# Altium schematic symbol library Sch_Lib.SchLib: 794 symbols (part 1 of 9)
Pins are listed as number, name and electrical type; pins without a type are passive.

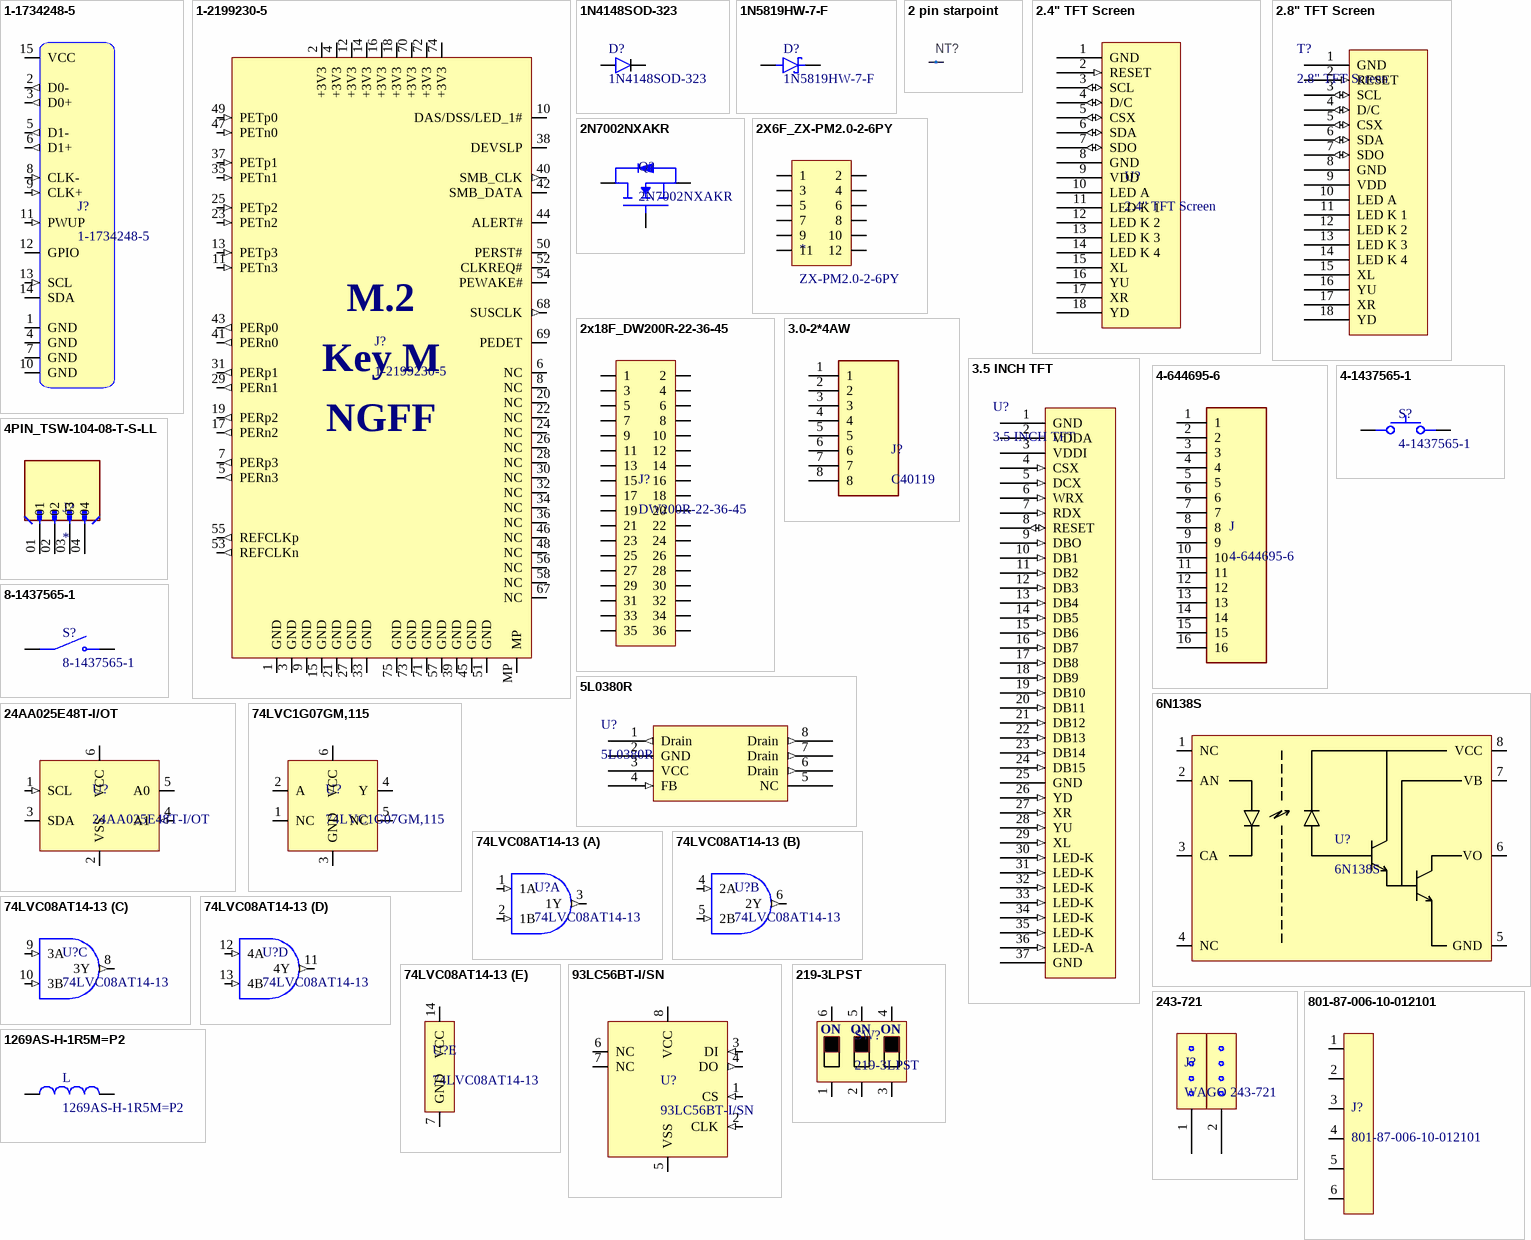
[diagram p0: symbols 1-1734248-5 to 1269AS-H-1R5M=P2]

## 1-1734248-5
designator J?
FFC & FPC Connectors 15P 1.0 FPC, Zip V/T SMT; Manufacturer: TE Connectivity; Manufacturer Part Number: 1-1734248-5; Distributor Link: https://www.mouser.de/ProductDetail/TE-Connectivity/1-1734248-5?qs=sGAEpiMZZMvlX3nhDDO4AGJoiHpVI%252BrLj36UQiWnLiQ%3D; LCSC: C2922285
footprint 1-1734248-5
pins: 1 GND (power), 2 D0- (out), 3 D0+ (out), 4 GND (power), 5 D1- (out), 6 D1+ (out), 7 GND (power), 8 CLK- (in), 9 CLK+ (in), 10 GND (power), 11 PWUP (in), 12 GPIO (io), 13 SCL (in), 14 SDA (io), 15 VCC (power)

## 1-2199230-5
designator J?  (no BOM)
M.2 NGFF Key M Card Edge Connector 0.5mm Pitch 67 Position 4.2mm Height; Manufacturer: TE Connectivity; Manufacturer Part Number: 1-2199230-5; Distributor Link: https://eu.mouser.com/ProductDetail/TE-Connectivity/1-2199230-5?qs=N0TJGnUfxCD5L9UvFjPEwQ%3D%3D; LCSC: C590854
footprint 1-2199230-5
pins: 1 GND (power), 2 +3V3 (power), 3 GND (power), 4 +3V3 (power), 5 PERn3 (out), 6 NC, 7 PERp3 (out), 8 NC, 9 GND (power), 10 DAS/DSS/LED_1#, 11 PETn3 (in), 12 +3V3 (power), 13 PETp3 (in), 14 +3V3 (power), 15 GND (power), 16 +3V3 (power), 17 PERn2 (out), 18 +3V3 (power), 19 PERp2 (out), 20 NC, 21 GND (power), 22 NC, 23 PETn2 (in), 24 NC, 25 PETp2 (in), 26 NC, 27 GND (power), 28 NC, 29 PERn1 (out), 30 NC, 31 PERp1 (out), 32 NC, 33 GND (power), 34 NC, 35 PETn1 (in), 36 NC, 37 PETp1 (in), 38 DEVSLP, 39 GND (power), 40 SMB_CLK (out), 41 PERn0 (out), 42 SMB_DATA (io), 43 PERp0 (out), 44 ALERT#, 45 GND (power), 46 NC, 47 PETn0 (in), 48 NC, 49 PETp0 (in), 50 PERST#, 51 GND (power), 52 CLKREQ#, 53 REFCLKn (out), 54 PEWAKE#, 55 REFCLKp (out), 56 NC, 57 GND (power), 58 NC, 67 NC, 68 SUSCLK (out), 69 PEDET, 70 +3V3 (power), 71 GND (power), 72 +3V3 (power), 73 GND (power), 74 +3V3 (power), 75 GND (power), MP (power)
text: M.2; Key M; NGFF

## 1N4148SOD-323
designator D?
75V Independent Type 1V@10mA 4ns 150mA SOD-323 Switching Diodes ROHS; Manufacturer: Shenzhen Jinkaisheng Elec; MPN: 1N4148SOD-323; LCSC NO: C2972761; ComponentLink1Description: LCSC Link; ComponentLink1URL: https://lcsc.com/product-detail/Switching-Diodes_Shenzhen-Jinkaisheng-Elec-1N4148SOD-323_C2972761.html?s_z=n_1N4148SOD-323
footprint SOD-323
pins: 1, 2

## 1N5819HW-7-F
designator D?
Diode Schottky 40 V 1A Surface Mount SOD-123; MF: Diodes Inc.; Value: *; SnapEDA_Link: https://www.snapeda.com/parts/1N5819HW-7-F/Diodes+Inc./view-part/?ref=snap; Purchase-URL: https://pricing.snapeda.com/search/part/1N5819HW-7-F/?ref=eda; Availability: In Stock; Price: None; Package: SOD-123 Fairchild Semiconductor; Check_prices: https://www.snapeda.com/parts/1N5819HW-7-F/Diodes+Inc./view-part/?ref=eda; MP: 1N5819HW-7-F
footprint SOD3715X145N
pins: A, C K

## 2 pin starpoint
designator NT?, comment Net tie  (value not drawn)  (net tie, no BOM)
Starpoint; Part Number: 2 pin starpoint; Manufacturer: N.A.; Part number NEMS: 100500603; Pad Count: 2; Component Status: Active; System: Connector; Manufacturer Part Number: N.A.; ComponentLink1URL: N.A.; ComponentLink1Description: Datasheet; ComponentLink2URL: N.A.; ComponentLink2Description: Supplier link; HelpURL: N.A.; Footprint Doc: N.A.; LatestRevisionDate: 2017-08-31; Published: 2017-08-31; Value: Net tie; Note: Net tie; Supplier 1: N.A.; Supplier Part Number 1: N.A.; Supplier 2: N.A.; Supplier Part Number 2: N.A.; Artikkelnr Noca: N.A.; Part number IPS: N.A.; Component Class: Connectors; PartId: 100500603; Author: rsk; Part number Norautron: N.A.
footprint 2 PIN STARPOINT
pins: 1, 2

## 2.4" TFT Screen
designator U?
footprint 2.4 inch Screen
pins: 1 GND (power), 2 RESET (in), 3 SCL (io), 4 D/C (io), 5 CSX (io), 6 SDA (io), 7 SDO (io), 8 GND (power), 9 VDD (power), 10 LED A (power), 11 LED K 1 (power), 12 LED K 2 (power), 13 LED K 3 (power), 14 LED K 4 (power), 15 XL (power), 16 YU (power), 17 XR (power), 18 YD (power)

## 2.8" TFT Screen
designator T?
SPI tft screen. For 2.4 inch
footprint 2.8 inch
pins: 1 GND (power), 2 RESET (in), 3 SCL (io), 4 D/C (io), 5 CSX (io), 6 SDA (io), 7 SDO (io), 8 GND (power), 9 VDD (power), 10 LED A (power), 11 LED K 1 (power), 12 LED K 2 (power), 13 LED K 3 (power), 14 LED K 4 (power), 15 XL (power), 16 YU (power), 17 XR (power), 18 YD (power)

## 2N7002NXAKR
designator Q?
MOSFET N-Channel Vds=60V Id=300mA with ESD Protection; Manufacturer: Nexperia; Manufacturer Part Number: 2N7002NXAKR
footprint SSM3J338R,LF-SOT23-F
pins: D, G, S

## 2X6F_ZX-PM2.0-2-6PY
designator *, comment ZX-PM2.0-2-6PY
2mm 2mm Double Row Gold 12P 1kV -40℃~+105℃ Straight 2x6P 6.35mm Top Square Hole Plugin,P=2mm Female Headers ROHS; Manufacturer: Megastar; MPN: ZX-PM2.0-2-6PY; LCSC NO: C7499370; ComponentLink1Description: LCSC Link; ComponentLink1URL: https://lcsc.com/product-detail/Female-Headers_Megastar-ZX-PM2-0-2-6PY_C7499370.html?s_z=n_%25202x6P%2520Female%2520Headers
footprint HDR-TH_12P-P2.00-V-M-R2-C6-S2.00-3 (2mm 2mm Double Row Gold 12P 1kV -40?~+105? Straight 2x6P 6.35mm Top Square Hole Plugin,P=2mm Female Headers ROHS)
pins: 1, 2, 3, 4, 5, 6, 7, 8, 9, 10, 11, 12

## 2x18F_DW200R-22-36-45
designator J?, comment DW200R-22-36-45
2mm Double Row Straight 2x18P Plugin,P=2mm Female Headers ROHS; Manufacturer: DEALON; MPN: DW200R-22-36-45; LCSC NO: C7506677; ComponentLink1Description: LCSC Link; ComponentLink1URL: https://lcsc.com/product-detail/Female-Headers_DEALON-DW200R-22-36-45_C7506677.html?s_z=n_%25202x18P%2520Female%2520Headers
footprint HDR-TH_36P-P2.00-V-F-R2-C18-S2.00 (2mm Double Row Straight 2x18P Plugin,P=2mm Female Headers ROHS)
pins: 1, 2, 3, 4, 5, 6, 7, 8, 9, 10, 11, 12, 13, 14, 15, 16, 17, 18, 19, 20, 21, 22, 23, 24, 25, 26, 27, 28, 29, 30, 31, 32, 33, 34, 35, 36

## 3.0-2*4AW
designator J?, comment C40119
2x4P 8P Micro-Fit(MX 3.0) 3mm 4 2 3mm Bend-in Push-Pull,P=3mm Wire To Board Connector ROHS
footprint 3.0-2*4AW (2x4P 8P Micro-Fit(MX 3.0) 3mm 4 2 3mm Bend-in Push-Pull,P=3mm Wire To Board Connector ROHS)
pins: 1, 2, 3, 4, 5, 6, 7, 8

## 3.5 INCH TFT
designator U?
footprint 3.5inch TFT
pins: 1 GND (power), 2 VDDA (power), 3 VDDI (power), 4 CSX (in), 5 DCX (in), 6 WRX (in), 7 RDX (in), 8 RESET (io), 9 DBO (in), 10 DB1 (in), 11 DB2 (in), 12 DB3 (in), 13 DB4 (in), 14 DB5 (in), 15 DB6 (in), 16 DB7 (in), 17 DB8 (in), 18 DB9 (in), 19 DB10 (in), 20 DB11 (in), 21 DB12 (in), 22 DB13 (in), 23 DB14 (in), 24 DB15 (in), 25 GND (power), 26 YD (in), 27 XR (in), 28 YU (in), 29 XL (in), 30 LED-K (in), 31 LED-K (in), 32 LED-K (in), 33 LED-K (in), 34 LED-K (in), 35 LED-K (in), 36 LED-A (in), 37 GND (power)

## 4-644695-6
designator J
16Pin 2.54mm MTA100 STR HDR RETENTIVE; MF: TE Connectivity; Centerline_Pitch: 2.54 mm[.1 in]; Product_Type: Connector; Number_of_Positions: 16; Package: None; Availability: Unavailable; TE_purchase_URL: https://www.te.com/usa-en/product-4-644695-6.html?te_bu=Cor&te_type=disp&te_campaign=seda_glo_cor-seda-global-disp-prtnr-fy19-seda-model-bom-cta_sma-317_1&elqCampaignId=32493; Value: *; MP: 4-644695-6; EU_RoHS_Compliance: Compliant; SnapEDA_Link: https://www.snapeda.com/parts/4-644695-6/TE%20Connectivity/view-part/1430141/?ref=snap; Price: None
footprint TE_4-644695-6
pins: 1, 2, 3, 4, 5, 6, 7, 8, 9, 10, 11, 12, 13, 14, 15, 16

## 4-1437565-1
designator S?
FSM4JSMA=SMT,TACTILE,PB SWITCH | TE Connectivity 4-1437565-1; Contact_Current_Rating: 50 mA; Configuration_Pole-Throw: Single Pole - Single Throw; SnapEDA_Link: https://www.snapeda.com/parts/4-1437565-1/TE+Connectivity+ALCOSWITCH+Switches/view-part/?ref=snap; Package: None; Value: *; MF: TE Connectivity; MP: 4-1437565-1; EU_RoHS_Compliance: Compliant; Check_prices: https://www.snapeda.com/parts/4-1437565-1/TE+Connectivity+ALCOSWITCH+Switches/view-part/?ref=eda
footprint SW_4-1437565-1
pins: 1, 4

## 4PIN_TSW-104-08-T-S-LL
designator J?
MF: Samtec; MP: TSW-104-08-T-S-LL; Availability: Unavailable; Value: *; Package: None; Price: None
footprint SAMTEC_TSW-104-08-T-S-LL
pins: 01, 02, 03, 04

## 5L0380R
designator U?
Switching IC for off-line SMPS
footprint 5L0380R
pins: 1 Drain (out), 2 GND (power), 3 VCC (power), 4 FB (in), 5 NC (oc), 6 Drain (out), 7 Drain (out), 8 Drain (out)

## 6N138S
designator U?
Single-Channel, High-Speed Optocoupler; Manufacturer: Lite-On; Manufacturer Part Number: 6N138S; Distributor Link: https://www.mouser.de/ProductDetail/Lite-On/6N138S?qs=PByDJ0nQNwpiJNZ8Mk8Kdw%3D%3D
footprint SMD-8
pins: 1 NC, 2 AN, 3 CA, 4 NC, 5 GND (power), 6 VO (oc), 7 VB (power), 8 VCC (power)

## 8-1437565-1
designator S?
Package: None; MP: 8-1437565-1; Price: None; Availability: Unavailable; Value: *
footprint SW_8-1437565-1
pins: 1 COM, 2 COM, 3 NO, 4 NO

## 24AA025E48T-I/OT
designator U?
2-Kbit I2C Serial EEPROMs with EUI-48™ Node Identity; Manufacturer: Microchip; Manufacturer Part Number: 24AA025E48T-I/OT; Distributor Link: https://www.mouser.de/ProductDetail/Microchip-Technology/24AA025E48T-I-OT?qs=GCDK0xhvQh4RRiPFFnzHdA%3D%3D; LCSC: C129895
footprint SOT-23-6
pins: 1 SCL (in), 2 VSS (power), 3 SDA (io), 4 A1 (in), 5 A0 (power), 6 VCC (power)

## 74LVC1G07GM,115
designator U?
Open-Drain Buffer 3.3V/5V Non-Inverting XSON-6; Manufacturer: Nexperia; Manufacturer Part Number: 74LVC1G07GM,115
footprint XSON-6-SOT1202 (SON, 6-Leads, Body 0.98x1.00mm, Pitch 0.35mm, IPC Medium Density)
pins: 1 NC, 2 A, 3 GND, 4 Y, 5 NC, 6 VCC

## 74LVC08AT14-13
designator U?
QUADRUPLE 2-INPUT CMOS AND GATES; Manufacturer: Diodes Incorporated; Manufacturer Part Number: 74LVC08AT14-13; Distributor Link: https://eu.mouser.com/ProductDetail/Diodes-Incorporated/74LVC08AT14-13?qs=ZtY9WdtwX5535dJGuTpaIA%3D%3D
footprint TSSOP-14
part A pins: 1 1A (in), 2 1B (in), 3 1Y (out)
part B pins: 4 2A (in), 5 2B (in), 6 2Y (out)
part C pins: 8 3Y (out), 9 3A (in), 10 3B (in)
part D pins: 11 4Y (out), 12 4A (in), 13 4B (in)
part E pins: 7 GND (power), 14 VCC (power)

## 93LC56BT-I/SN
designator U?
2K Microwire Compatible Serial EEPROM; Manufacturer: Microchip; Manufacturer Part Number: 93LC56BT-I/SN; Distributor Link: https://www.mouser.de/ProductDetail/Microchip-Technology/93LC56BT-I-SN?qs=lQv0JY93vreW%252BBssv4v8RA%3D%3D; LCSC: C6164
footprint SOIC-8 (SOIC, 8-Leads, Body 4.91x3.90mm, Pitch 1.27mm, IPC Medium Density)
pins: 1 CS (in), 2 CLK (in), 3 DI (in), 4 DO (out), 5 VSS (power), 6 NC, 7 NC, 8 VCC (power)

## 219-3LPST
designator SW?
DIP Switches SPST 3x; Manufacturer: CTS; Manufacturer Part Number: 219-3LPST
footprint 219-3LPST
pins: 1, 2, 3, 4, 5, 6
text: ON

## 243-721
designator J?, comment WAGO 243-721
TERM BLOCK PLUG 1POS 5.75MM
footprint 243-721 (Connection terminal, 4 pole, 0.5-1.0 mm², clamping points: 4, gray)
pins: 1, 2

## 801-87-006-10-012101
designator J?
Pin Socket 6 Position 2.54mm Pitch; Manufacturer: preci-dip; Manufacturer Part Number: 801-87-006-10-012101
footprint 801-87-006-10-012101
pins: 1, 2, 3, 4, 5, 6

## 1269AS-H-1R5M=P2
designator L
Inductor with Inductance: 1.5uH Tol. +/-20%, Package: 1008 (2520); MF: Murata Electronics; Package: 2520 Murata; SnapEDA_Link: https://www.snapeda.com/parts/1269AS-H-1R5M=P2/Murata%20Electronics%20North%20America/view-part/577655/?ref=snap; MP: 1269AS-H-1R5M=P2; Value: *; Digi-Key_Part_Number: 490-10574-1-ND
footprint INDC2520X100N
pins: 1, 2

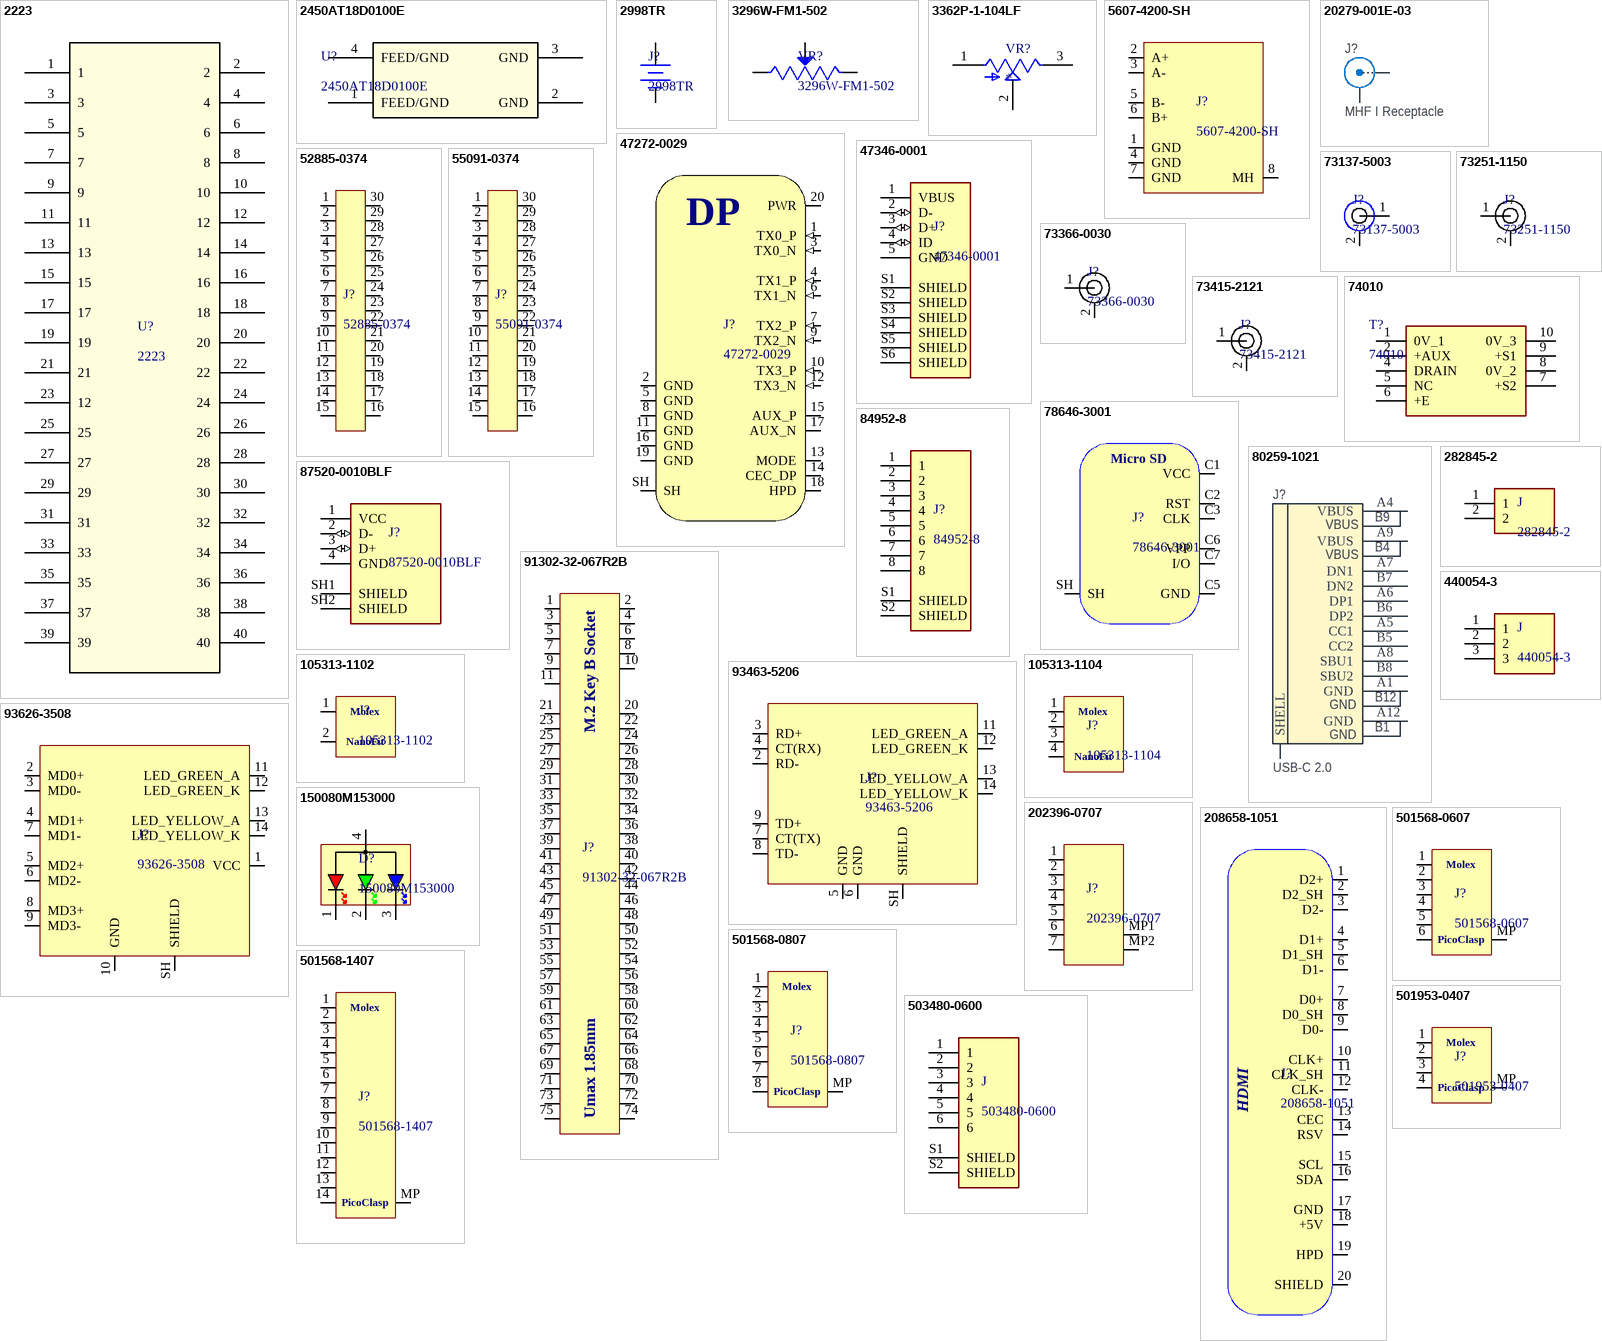
[diagram p1: symbols 2223 to 503480-0600]

## 2223
designator U?
Description; Manufacturer_Name: Adafruit Industries; Copyright: Copyright (C) 2025 Ultra Librarian. All rights reserved.; Manufacturer_Part_Number: 2223; RefDes: RefDes; Type: Type
footprint 2223_ADA
pins: 1, 2, 3, 4, 5, 6, 7, 8, 9, 10, 11, 12, 13, 14, 15, 16, 17, 18, 19, 20, 21, 22, 23 12, 24, 25, 26, 27, 28, 29, 30, 31, 32, 33, 34, 35, 36, 37, 38, 39, 40

## 2450AT18D0100E
designator U?
Description; Manufacturer_Name: Johanson Technology; Copyright: Copyright (C) 2025 Ultra Librarian. All rights reserved.; Manufacturer_Part_Number: 2450AT18D0100E; RefDes: RefDes; Type: Type
footprint 2450AT18D0100E_JOT
pins: 1 FEED/GND, 2 GND (power), 3 GND (power), 4 FEED/GND

## 2998TR
designator J?
Coin Cell Battery Holder 6.8mm; Manufacturer: Keystone Electronics; Manufacturer Part Number: 2998TR
footprint 2998TR (6.8mm Coin Cell Holder SMD)
pins: A, K

## 3296W-FM1-502
designator VR?
Trimmer Resistors - Through Hole; MF: Bourns; MP: 3296W-FM1-502; Availability: Warning; SnapEDA_Link: https://www.snapeda.com/parts/3296W-FM1-502/Bourns/view-part/3211169/?ref=snap; Package: None; Price: None; Value: *; Check_prices: https://www.snapeda.com/parts/3296W-FM1-502/Bourns/view-part/3211169/?ref=eda
footprint TRIM_3296W-FM1-502
pins: 1 CCW, 2 WIPER, 3 CW

## 3362P-1-104LF
designator VR?
Res Cermet Trimmer 100K Ohm 10% 0.5W(1/2W) 1(Elec)/1(Mech)Turns 2.77mm (6.6 X 6.99 X 4.7mm) Pin Thru-Hole Tube; MF: Bourns Electronics; MP: 3362P1104LF; SnapEDA_Link: https://www.snapeda.com/parts/3362P1104LF/Bourns/view-part/?ref=snap; Package: 3362P-1 Bourns Inc.; Value: *; Check_prices: https://www.snapeda.com/parts/3362P1104LF/Bourns/view-part/?ref=eda
footprint TRIM_3362P-1-104LF
pins: 1 CCW, 2 WIPER, 3 CW

## 5607-4200-SH
designator J?
SATA Connector 7-Position 1.27mm Pitch Male Right Angle SMD; Manufacturer: 3M; Manufacturer Part Number: 5607-4200-SH
footprint 5607-4200-SH
pins: 1 GND, 2 A+, 3 A-, 4 GND, 5 B-, 6 B+, 7 GND, 8 MH

## 20279-001E-03
designator J?, comment MHF I Receptacle
Ultraminiature Coaxial Connector, 50 Ohm, SMD; Part Number: 20279-001E-03; Manufacturer: Wellshow; Part number IPS: 00000004436; Part number NEMS: 100500636; Note: N.A.; Pad Count: 3; Component Status: Active; Manufacturer Part Number: 20279-001E-03; ComponentLink1URL: \\hizz\pro\app9717\Datasheet\connectors\Wellshow\20279C18.pdf; ComponentLink1Description: Datasheet; ComponentLink2URL: N.A.; ComponentLink2Description: Supplier link; HelpURL: N.A.; Footprint Doc: COAXIAL RF MHFI; LatestRevisionDate: 2020-04-28; Published: 2020-01-07; Value: MHF I Receptacle; Supplier 1: Cabcon; Supplier Part Number 1: 20279-001E-03; Supplier 2: Digi-Key; Supplier Part Number 2: H11891DKR-ND; Artikkelnr Noca: N.A.; PartId: 100500636; Component Class: Connectors; Author: rsk; Part number Norautron: N.A.; System: Connector
footprint COAXIAL RF U.FL-R-SMT-1
pins: 1 X, 2 Y

## 47272-0029
designator J?
DisplayPort Male Receptacle, Right-Angle, Surface Mount, 0.76µm Gold (Au) Plating, 20 Circuits, 0.50mm Pitch, without Cover, Lead-Free; Manufacturer: Molex; Manufacturer Part Number: 47272-0029; Distributor Link: https://eu.mouser.com/ProductDetail/Molex/47272-0029?qs=R8Vl3J6srxyrbHtT7SkUeQ%3D%3D
footprint 47272-0029
pins: 1 TX0_P (in), 2 GND (power), 3 TX0_N (in), 4 TX1_P (in), 5 GND (power), 6 TX1_N (in), 7 TX2_P (in), 8 GND (power), 9 TX2_N (in), 10 TX3_P (in), 11 GND (power), 12 TX3_N (in), 13 MODE, 14 CEC_DP, 15 AUX_P (io), 16 GND (power), 17 AUX_N (io), 18 HPD, 19 GND (power), 20 PWR (power), SH
text: DP

## 47346-0001
designator J?
USB - micro B USB 2.0 Receptacle Connector 5 Position Surface Mount, Right Angle; MF: Molex; SnapEDA_Link: https://www.snapeda.com/parts/47346-0001/Molex/view-part/?ref=snap; Package: None; MP: 47346-0001; Check_prices: https://www.snapeda.com/parts/47346-0001/Molex/view-part/?ref=eda; Purchase-URL: https://pricing.snapeda.com/search/part/47346-0001/?ref=eda; Price: None; Value: *; Availability: In Stock
footprint MOLEX_47346-0001
pins: 1 VBUS (power), 2 D- (io), 3 D+ (io), 4 ID (io), 5 GND (power), S1 SHIELD, S2 SHIELD, S3 SHIELD, S4 SHIELD, S5 SHIELD, S6 SHIELD

## 52885-0374
designator J?
SlimStack Board-to-Board Connector, 0.635mm Pitch, 0.635 Series, Receptacle, 6.00 to 10.00mm Mated Height, 6.40mm Mated Width, 30 Circuits; Manufacturer: Molex; Manufacturer Part Number: 52885-0374
footprint 52885-0374
pins: 1, 2, 3, 4, 5, 6, 7, 8, 9, 10, 11, 12, 13, 14, 15, 16, 17, 18, 19, 20, 21, 22, 23, 24, 25, 26, 27, 28, 29, 30

## 55091-0374
designator J?
SlimStack Board-to-Board Connector, 0.635mm Pitch, 0.635 Series, Plug, 6.00 or 12.00mm Mated Height, 6.40mm Mated Width, 30 Circuits; Manufacturer: Molex; Manufacturer Part Number: 55091-0374
footprint 55091-0374
pins: 1, 2, 3, 4, 5, 6, 7, 8, 9, 10, 11, 12, 13, 14, 15, 16, 17, 18, 19, 20, 21, 22, 23, 24, 25, 26, 27, 28, 29, 30

## 73137-5003
designator J?
BNC 50 Ohm, Right-Angle PCB Bulkhead Jack Receptacle, Panel Isolated, Black PBT Housing, Housing Height 13.20mm; Manufacturer: Molex; Manufacturer Part Number: 73137-5003
footprint 73137-5003
pins: 1, 2

## 73251-1150
designator J?
RF Connector 50 Ohms, SMA Jack Receptacle, Edge Mount, .25µm Gold (Au) Plating; Manufacturer: Molex; Manufacturer Part Number: 73251-1150
footprint 73251-1150
pins: 1, 2

## 73366-0030
designator J?
50 Ohms, MCX PCB Jack Receptacle, Right-Angle, 80; Manufacturer: Molex; Manufacturer Part Number: 73366-0030
footprint 73366-0030
pins: 1, 2

## 73415-2121
designator J?
RF Connector 50 Ohms, MMCX Vertical Plug, PCB, Plating Per Commercial Requirements, Bulk; Manufacturer: Molex; Manufacturer Part Number: 73415-2121
footprint 73415-2121
pins: 1, 2

## 74010
designator T?
Transformer; Manufacturer_Name: MYRRA; Datasheet Link: https://www.tme.eu/Document/916cc90b5293db331b8d05364195dd93/74010-Datasheet.pdf; Height: 17.5mm; Manufacturer_Part_Number: 74010
footprint 74010
pins: 1 0V_1, 2 +AUX, 4 DRAIN, 5 NC, 6 +E, 7 +S2, 8 0V_2, 9 +S1, 10 0V_3

## 78646-3001
designator J?
micro-SIM Card Socket without Detect Switch, 1.45mm Height, Push-Pull Eject, Surface Mount, 6 Circuits, Low-Halogen, Lead-Free; Manufacturer: Molex; Manufacturer Part Number: 78646-3001
footprint 78646-3001
pins: C1 VCC, C2 RST, C3 CLK, C5 GND, C6 VPP, C7 I/O, SH
text: Micro SD

## 80259-1021
designator J?, comment USB-C 2.0
USB-C Receptacle, 16 Pin, USB 2.0; Part Number: 80259-1021; Manufacturer: Bellweather Electronic Corp.; Part number NEMS: 100500830; Pad Count: 16; Note: N.A.; Component Status: Active; System: Connector; PartId: 100500830; Component Class: Connectors; Manufacturer Part Number: 80259-1021; ComponentLink1URL: \\hizz\pro\app9717\Datasheet\connectors\Bellwether\SD-80259-001_C.pdf; ComponentLink1Description: Datasheet; ComponentLink2URL: N.A.; ComponentLink2Description: Supplier link; HelpURL: N.A.; Footprint Doc: SD-80259-001; LatestRevisionDate: 2024-03-26; Published: 2023-10-30; Value: USB-C 2.0; Supplier 1: Cabcon; Supplier Part Number 1: 80259-1021; Supplier 2: N.A.; Supplier Part Number 2: N.A.; Artikkelnr Noca: N.A.; Part number IPS: N.A.; Author: getr; Part number Norautron: N.A.
footprint SD-80259-001
pins: A1 GND (power), A4 VBUS (power), A5 CC1, A6 DP1, A7 DN1, A8 SBU1, A9 VBUS (power), A12 GND (power), B5 CC2, B6 DP2, B7 DN2, B8 SBU2, SHLD SHELL (power)
text: B9; B4; B12; B1

## 84952-8
designator J?
FFC / FPC Board Connector, 1 mm, 8 Contacts, Receptacle, FPC Series, Surface Mount, Bottom; MF: TE Connectivity; Price: None; Value: *; Package: None; SnapEDA_Link: https://www.snapeda.com/parts/84952-8/TE%20Connectivity%20AMP%20Connectors/view-part/471908/?ref=snap; DigiKey-Purchase-URL: https://snapeda.com/shop?store=DigiKey&id=471908; Availability: Unavailable; EU_RoHS_Compliance: Compliant; MP: 84952-8
footprint TE_84952-8
pins: 1, 2, 3, 4, 5, 6, 7, 8, S1 SHIELD, S2 SHIELD

## 87520-0010BLF
designator J?
Conn Data USB TypeA Socket 4Cnts RightAngle ThruHole White 1.57mmPCB | Amphenol FCI (Amphenol CS) 87520-0010BLF; MF: AMPHENOL ICC / FCI; SnapEDA_Link: https://www.snapeda.com/parts/87520-0010BLF/Amphenol/view-part/?ref=snap; Package: None; Value: *; MP: 87520-0010BLF; Check_prices: https://www.snapeda.com/parts/87520-0010BLF/Amphenol/view-part/?ref=eda
footprint AMPHENOL_87520-0010BLF
pins: 1 VCC (power), 2 D- (io), 3 D+ (io), 4 GND (power), SH1 SHIELD, SH2 SHIELD

## 91302-32-067R2B
designator J?
M.2 Key B Card Edge Connector 67 Position 0.5mm Pitch 1.85mm Card Height; Manufacturer: Umax; Manufacturer Part Number: 91302-32-067R2B; Distributor Link: https://www.lcsc.com/product-detail/Card-Edge-Connectors_UMAX-91302-32-067R2B_C1509731.html; LCSC: C1509731
footprint 91302-32-067R2B
pins: 1, 2, 3, 4, 5, 6, 7, 8, 9, 10, 11, 20, 21, 22, 23, 24, 25, 26, 27, 28, 29, 30, 31, 32, 33, 34, 35, 36, 37, 38, 39, 40, 41, 42, 43, 44, 45, 46, 47, 48, 49, 50, 51, 52, 53, 54, 55, 56, 57, 58, 59, 60, 61, 62, 63, 64, 65, 66, 67, 68, 69, 70, 71, 72, 73, 74, 75
text: M.2 Key B Socket; Umax 1.85mm

## 93463-5206
designator J?
MXMag Gigabit Ethernet 8 Core Non-PoE Single-Port RJ45 Connector, 21.40mm Depth, 3.30mm Phy Pin Length, Right-Angle, Inverted Profile, with Shield Tabs, with Green-Green LEDs, Standard Temperature, with 2kV Shield Connection, Tray; Manufacturer: Molex; Manufacturer Part Number: 93463-5206
footprint 93463-5206
pins: 2 RD- (io), 3 RD+ (io), 4 CT(RX), 5 GND (power), 6 GND (power), 7 CT(TX), 8 TD- (io), 9 TD+ (io), 11 LED_GREEN_A, 12 LED_GREEN_K, 13 LED_YELLOW_A, 14 LED_YELLOW_K, SH SHIELD (power)

## 93626-3508
designator J?
MXMag Gigabit Ethernet 8 Core Non-PoE Single-Port RJ45 Connector, 21.40mm Depth, 3.30mm Phy Pin Length, Right-Angle, Standard Profile, with Shield Tabs, with Green/Yellow-Green/Yellow LEDs, Standard Temperature, with 2kV Shield Connection; Manufacturer: Molex; Manufacturer Part Number: 93626-3508
footprint 93626-3508
pins: 1 VCC, 2 MD0+, 3 MD0-, 4 MD1+, 5 MD2+, 6 MD2-, 7 MD1-, 8 MD3+, 9 MD3-, 10 GND, 11 LED_GREEN_A, 12 LED_GREEN_K, 13 LED_YELLOW_A, 14 LED_YELLOW_K, SH SHIELD

## 105313-1102
designator J?
Nano-Fit Right-Angle Header, Through Hole, 2.50mm Pitch, Single Row, 2 Circuits, Tin (Sn) Plating, Black, Glow-Wire Capable, Tray; Manufacturer: Molex; Manufacturer Part Number: 105313-1102
footprint 105313-1102
pins: 1, 2
text: NanoFit

## 105313-1104
designator J?
Nano-Fit Right-Angle Header, Through Hole, 2.50mm Pitch, Single Row, 2 Circuits, Tin (Sn) Plating, Black, Glow-Wire Capable, Tray; Manufacturer: Molex; Manufacturer Part Number: 105313-1104
footprint 105313-1104
pins: 1, 2, 3, 4
text: NanoFit

## 150080M153000
designator D?
RGB LED Common Anode SMD Diffused 0805 Top View; Manufacturer: Wurth; Manufacturer Part Number: 150080M153000; Distributor Link: https://www.mouser.de/ProductDetail/Wurth-Elektronik/150080M153000?qs=5aG0NVq1C4wI5cZ2wabu5A%3D%3D
footprint 150080M153000
pins: 1 CR, 2 CG, 3 CB, 4 AC

## 202396-0707
designator J?
1.00mm Pitch, Pico-Clasp PCB Header, Single Row, Right-Angle, Surface Mount, 0.10µm Gold Plated, Inner Positive Lock, 7 Circuits, Natural; Manufacturer: Molex; Manufacturer Part Number: 202396-0707
footprint 202396-0707
pins: 1, 2, 3, 4, 5, 6, 7, MP1, MP2

## 208658-1051
designator J?
HDMI v2.1 Receptacle, Right-Angle, Gold Flash Plating, without Mylar, without Flange, Tape and Reel, 19 Circuits; Manufacturer: Molex; Manufacturer Part Number: 208658-1051
footprint 208658-1051
pins: 1 D2+, 2 D2_SH, 3 D2-, 4 D1+, 5 D1_SH, 6 D1-, 7 D0+, 8 D0_SH, 9 D0-, 10 CLK+, 11 CLK_SH, 12 CLK-, 13 CEC, 14 RSV, 15 SCL, 16 SDA, 17 GND, 18 +5V, 19 HPD, 20 SHIELD
text: HDMI

## 282845-2
designator J
Connector Terminal Blocks 2 POS 7.62mm Solder ST Thru-Hole; Centerline_Pitch: 7.62 mm[.3 in]; Number_of_Positions: 2; MF: TE Connectivity; EU_RoHS_Compliance: Compliant with Exemptions; Price: None; Package: None; TE_purchase_URL: https://www.te.com/usa-en/product-282845-2.html?te_bu=Cor&te_type=disp&te_campaign=seda_glo_cor-seda-global-disp-prtnr-fy19-seda-model-bom-cta_sma-317_1&elqCampaignId=32493; Value: *; MP: 282845-2; Availability: Unavailable; SnapEDA_Link: https://www.snapeda.com/parts/282845-2/TE%20Connectivity%20AMP%20Connectors/view-part/533912/?ref=snap
footprint TE_282845-2
pins: 1, 2

## 440054-3
designator J
2.0MM,HDR,3POS,VERTICAL; Product_Type: Connector; Centerline_Pitch: 2 mm[.079 in]; Number_of_Positions: 3; MF: TE Connectivity; Package: None; Availability: Unavailable; TE_purchase_URL: https://www.te.com/usa-en/product-440054-3.html?te_bu=Cor&te_type=disp&te_campaign=seda_glo_cor-seda-global-disp-prtnr-fy19-seda-model-bom-cta_sma-317_1&elqCampaignId=32493; MP: 440054-3; Value: *; EU_RoHS_Compliance: Compliant; SnapEDA_Link: https://www.snapeda.com/parts/440054-3/TE%20Connectivity%20AMP%20Connectors/view-part/942515/?ref=snap; Price: None
footprint TE_440054-3
pins: 1, 2, 3

## 501568-0607
designator J?
1.00mm Pitch, Pico-Clasp PCB Header, Single Row, Right-Angle, Surface Mount, Tin Plated, Outer Positive Lock, 6 Circuits, Natural; Manufacturer: Molex; Manufacturer Part Number: 501568-0607
footprint 501568-0607
pins: 1, 2, 3, 4, 5, 6, MP
text: PicoClasp

## 501568-0807
designator J?
1.00mm Pitch, Pico-Clasp PCB Header, Single Row, Right-Angle, Surface Mount, Tin Plated, Outer Positive Lock, 8 Circuits, Natural; Manufacturer: Molex; Manufacturer Part Number: 501568-0807
footprint 501568-0807
pins: 1, 2, 3, 4, 5, 6, 7, 8, MP
text: PicoClasp

## 501568-1407
designator J?
1.00mm Pitch, Pico-Clasp PCB Header, Single Row, Right-Angle, Surface Mount, Tin Plated, Outer Positive Lock, 14 Circuits, Natural; Manufacturer: Molex; Manufacturer Part Number: 501568-1407
footprint 501568-1407
pins: 1, 2, 3, 4, 5, 6, 7, 8, 9, 10, 11, 12, 13, 14, MP
text: PicoClasp

## 501953-0407
designator J?
1.00mm Pitch, Pico-Clasp PCB Header, Single Row, Right-Angle, Surface Mount, 1.01µm Tin Plated, Outer Positive Lock, 4 Circuits, Natural; Manufacturer: Molex; Manufacturer Part Number: 501953-0407
footprint 501953-0407
pins: 1, 2, 3, 4, MP
text: PicoClasp

## 503480-0600
designator J
6 Position FFC, FPC Connector Contacts, Top and Bottom 0.020 _0.50mm_ Surface Mount, Right Angle; MP: 5034800600; MF: Molex; Availability: Unavailable; SnapEDA_Link: https://www.snapeda.com/parts/5034800600/Molex/view-part/1319072/?ref=snap; Package: None; Price: None; Value: *
footprint MOLEX_503480-0600
pins: 1, 2, 3, 4, 5, 6, S1 SHIELD, S2 SHIELD

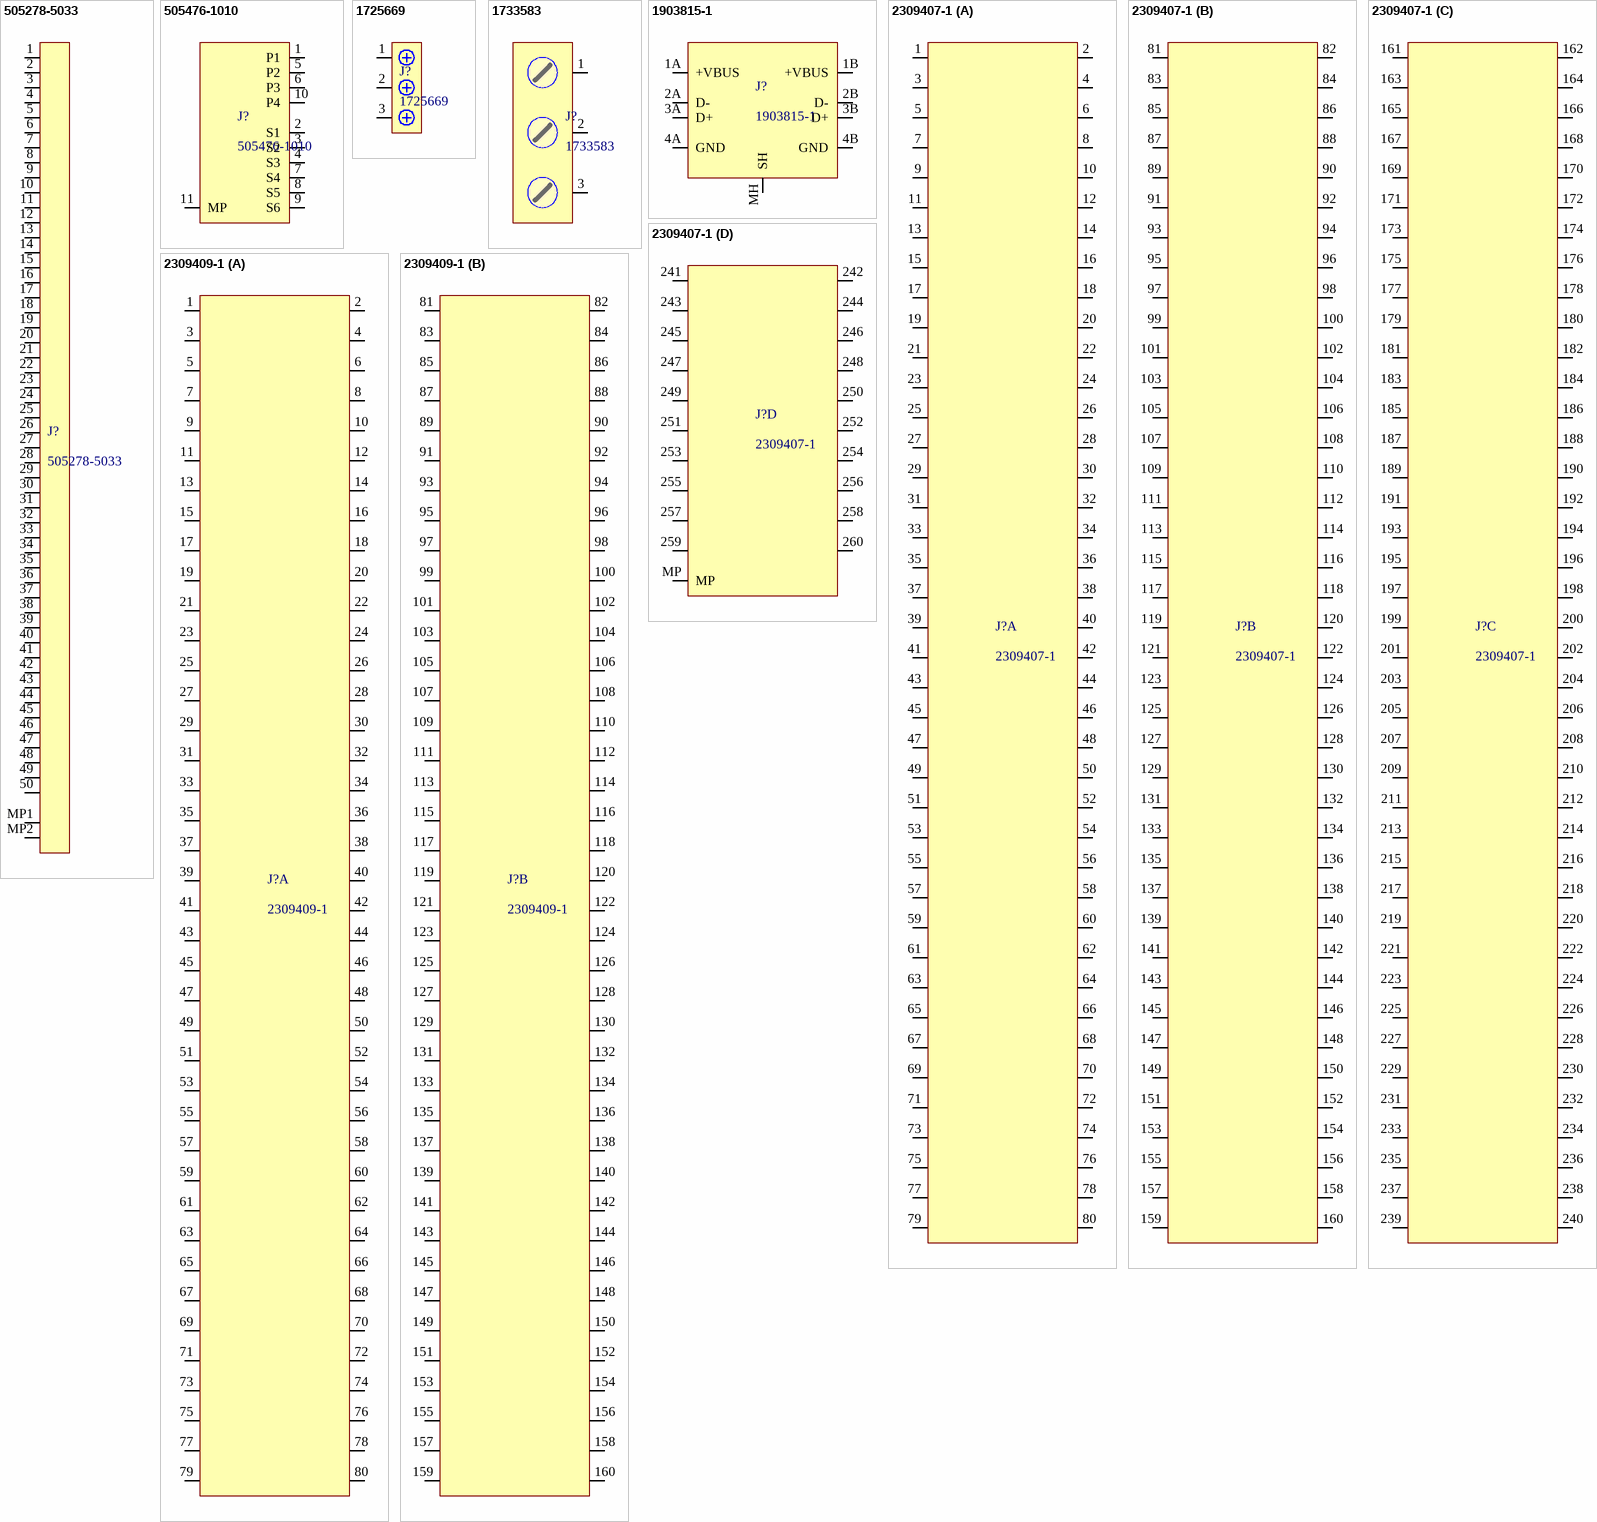
[diagram p2: symbols 505278-5033 to 2309409-1]

## 505278-5033
designator J?
FFC Connector 50 Position 0.5mm Pitch Bottom Contact ZIF; Manufacturer: Molex; Manufacturer Part Number: 505278-5033
footprint 505278-5033
pins: 1, 2, 3, 4, 5, 6, 7, 8, 9, 10, 11, 12, 13, 14, 15, 16, 17, 18, 19, 20, 21, 22, 23, 24, 25, 26, 27, 28, 29, 30, 31, 32, 33, 34, 35, 36, 37, 38, 39, 40, 41, 42, 43, 44, 45, 46, 47, 48, 49, 50, MP1, MP2

## 505476-1010
designator J?
SlimStack Board-to-Board Plug, 0.40mm Pitch, Battery Series, 0.60mm Mated Height, 2.00mm Mated Width, 10 Circuits, 10.0A; Manufacturer: Molex; Manufacturer Part Number: 505476-1010
footprint 505476-1010
pins: 1 P1 (power), 2 S1 (io), 3 S2 (io), 4 S3 (io), 5 P2 (power), 6 P3 (power), 7 S4 (io), 8 S5 (io), 9 S6 (io), 10 P4 (power), 11 MP

## 1725669
designator J?
Screw Terminal Block 3 Positions 2.54mm; Manufacturer: Phoenix; Manufacturer Part Number: 1725669; Distributor Link: https://www.mouser.de/ProductDetail/Phoenix-Contact/1725669?qs=A%2FKWGUWTCZjmkTL0Oe91ew%3D%3D
footprint 1725669
pins: 1, 2, 3

## 1733583
designator J?
Screw Terminal 3 Position 5.08mm Pitch Phoenix; Manufacturer: Phoenix Contact; Manufacturer Part Number: 1733583
footprint 1733583
pins: 1, 2, 3

## 1903815-1
designator J?
USB Connectors, A, 2.0, Standard Profile, Female Receptacle, 2 Port, Top, Right Angle, IP20, Offset, Industrial USB IP20; Manufacturer: TE Connectivity; Manufacturer Part Number: 1903815-1
footprint 1903815-1
pins: 1A +VBUS, 1B +VBUS, 2A D-, 2B D-, 3A D+, 3B D+, 4A GND, 4B GND, MH SH

## 2309407-1
designator J?
SO DIMM Socket, Small Outline (SO), Stack Height .157 in [4 mm], Right Angle Module Orientation, 260 Position, DDR4 DIMM; Manufacturer: TE Connectivity; Manufacturer Part Number: 2309407-1
footprint 2309407-1
part A pins: 1, 2, 3, 4, 5, 6, 7, 8, 9, 10, 11, 12, 13, 14, 15, 16, 17, 18, 19, 20, 21, 22, 23, 24, 25, 26, 27, 28, 29, 30, 31, 32, 33, 34, 35, 36, 37, 38, 39, 40, 41, 42, 43, 44, 45, 46, 47, 48, 49, 50, 51, 52, 53, 54, 55, 56, 57, 58, 59, 60, 61, 62, 63, 64, 65, 66, 67, 68, 69, 70, 71, 72, 73, 74, 75, 76, 77, 78, 79, 80
part B pins: 81, 82, 83, 84, 85, 86, 87, 88, 89, 90, 91, 92, 93, 94, 95, 96, 97, 98, 99, 100, 101, 102, 103, 104, 105, 106, 107, 108, 109, 110, 111, 112, 113, 114, 115, 116, 117, 118, 119, 120, 121, 122, 123, 124, 125, 126, 127, 128, 129, 130, 131, 132, 133, 134, 135, 136, 137, 138, 139, 140, 141, 142, 143, 144, 145, 146, 147, 148, 149, 150, 151, 152, 153, 154, 155, 156, 157, 158, 159, 160
part C pins: 161, 162, 163, 164, 165, 166, 167, 168, 169, 170, 171, 172, 173, 174, 175, 176, 177, 178, 179, 180, 181, 182, 183, 184, 185, 186, 187, 188, 189, 190, 191, 192, 193, 194, 195, 196, 197, 198, 199, 200, 201, 202, 203, 204, 205, 206, 207, 208, 209, 210, 211, 212, 213, 214, 215, 216, 217, 218, 219, 220, 221, 222, 223, 224, 225, 226, 227, 228, 229, 230, 231, 232, 233, 234, 235, 236, 237, 238, 239, 240
part D pins: 241, 242, 243, 244, 245, 246, 247, 248, 249, 250, 251, 252, 253, 254, 255, 256, 257, 258, 259, 260, MP

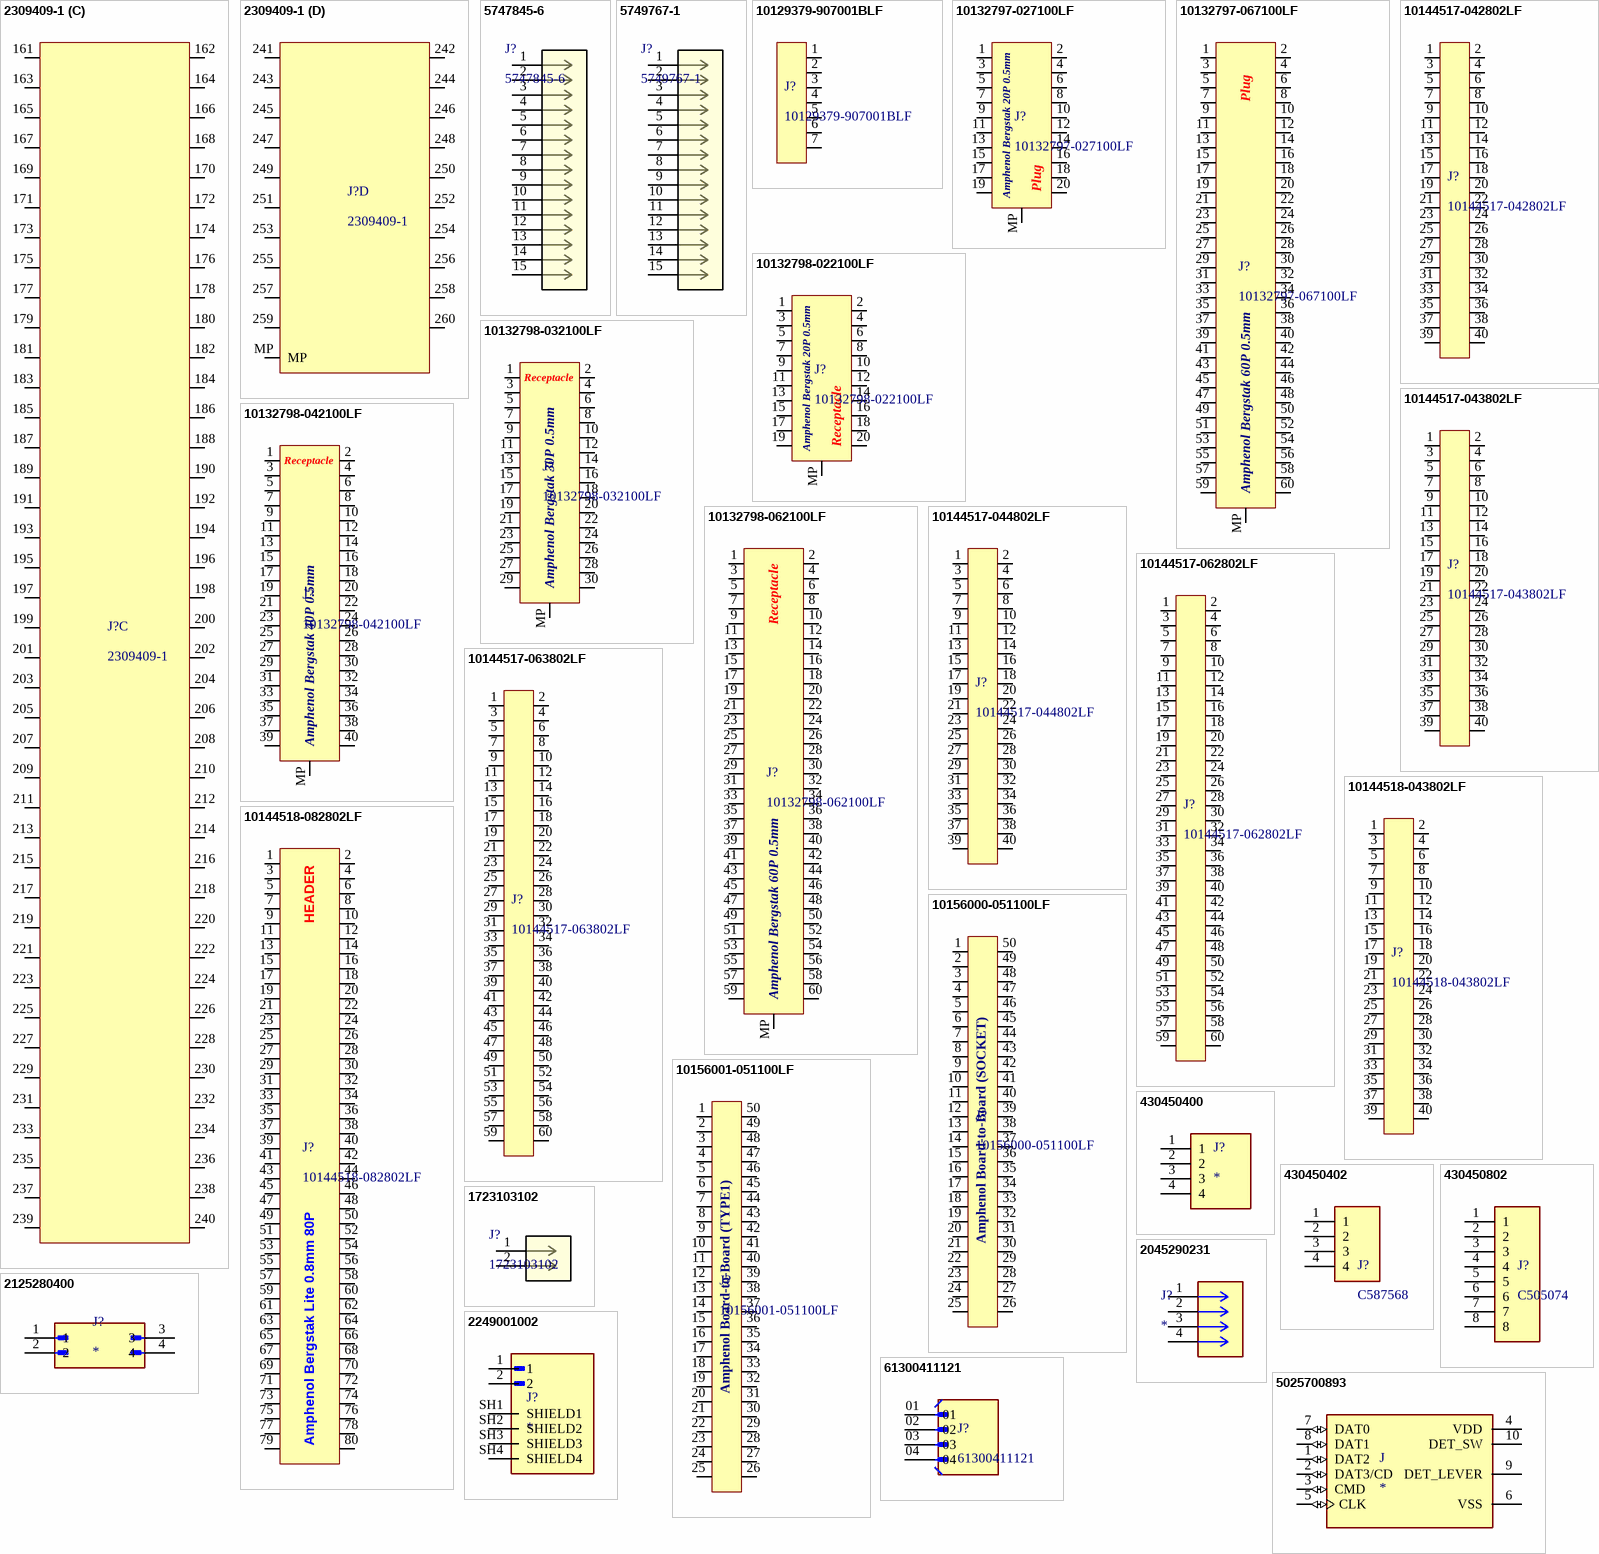
[diagram p3: symbols 2309409-1 to 61300411121]

## 2309409-1
designator J?
SO DIMM Socket, Small Outline (SO), Stack Height .205 in [5.2 mm], Right Angle Module Orientation, 260 Position, DDR4 DIMM; Manufacturer: TE Connectivity; Manufacturer Part Number: 2309409-1
footprint 2309409-1
part A pins: 1, 2, 3, 4, 5, 6, 7, 8, 9, 10, 11, 12, 13, 14, 15, 16, 17, 18, 19, 20, 21, 22, 23, 24, 25, 26, 27, 28, 29, 30, 31, 32, 33, 34, 35, 36, 37, 38, 39, 40, 41, 42, 43, 44, 45, 46, 47, 48, 49, 50, 51, 52, 53, 54, 55, 56, 57, 58, 59, 60, 61, 62, 63, 64, 65, 66, 67, 68, 69, 70, 71, 72, 73, 74, 75, 76, 77, 78, 79, 80
part B pins: 81, 82, 83, 84, 85, 86, 87, 88, 89, 90, 91, 92, 93, 94, 95, 96, 97, 98, 99, 100, 101, 102, 103, 104, 105, 106, 107, 108, 109, 110, 111, 112, 113, 114, 115, 116, 117, 118, 119, 120, 121, 122, 123, 124, 125, 126, 127, 128, 129, 130, 131, 132, 133, 134, 135, 136, 137, 138, 139, 140, 141, 142, 143, 144, 145, 146, 147, 148, 149, 150, 151, 152, 153, 154, 155, 156, 157, 158, 159, 160
part C pins: 161, 162, 163, 164, 165, 166, 167, 168, 169, 170, 171, 172, 173, 174, 175, 176, 177, 178, 179, 180, 181, 182, 183, 184, 185, 186, 187, 188, 189, 190, 191, 192, 193, 194, 195, 196, 197, 198, 199, 200, 201, 202, 203, 204, 205, 206, 207, 208, 209, 210, 211, 212, 213, 214, 215, 216, 217, 218, 219, 220, 221, 222, 223, 224, 225, 226, 227, 228, 229, 230, 231, 232, 233, 234, 235, 236, 237, 238, 239, 240
part D pins: 241, 242, 243, 244, 245, 246, 247, 248, 249, 250, 251, 252, 253, 254, 255, 256, 257, 258, 259, 260, MP

## 5747845-6
designator J?
15 MSFL RCPT RA 318 (SL,FM,BL); Manufacturer_Name: TE Connectivity; Copyright: Copyright (C) 2025 Ultra Librarian. All rights reserved.; Manufacturer_Part_Number: 5747845-6; RefDes: RefDes; Type: Type
footprint CONN_5747845-6_TYC
pins: 1, 2, 3, 4, 5, 6, 7, 8, 9, 10, 11, 12, 13, 14, 15

## 5749767-1
designator J?
No Description Available; Manufacturer_Name: TE Connectivity; Copyright: Copyright (C) 2026 Ultra Librarian. All rights reserved.; Manufacturer_Part_Number: 5749767-1; RefDes: RefDes; Type: Type
footprint CONN_5749767-1_TYC
pins: 1, 2, 3, 4, 5, 6, 7, 8, 9, 10, 11, 12, 13, 14, 15

## 10129379-907001BLF
designator J?
EconoStik™ 2.54mm, Board to Board Connector, Unshrouded Right Angled Header, Through Hole, Single Row, 7 Positions, 2.54 mm (0.100in) Pitch; Manufacturer: Amphenol; Manufacturer Part Number: 10129379-907001BLF
footprint 10129379-907001BLF
pins: 1, 2, 3, 4, 5, 6, 7

## 10132797-027100LF
designator J?
BergStak® 0.5mm Mezzanine Connector, Board To Board Connectors, 20 position, 5.3mm height plug connector; Manufacturer: Amphenol; Manufacturer Part Number: 10132797-027100LF
footprint 10132797-027100LF
pins: 1, 2, 3, 4, 5, 6, 7, 8, 9, 10, 11, 12, 13, 14, 15, 16, 17, 18, 19, 20, MP
text: Amphenol Bergstak 20P 0.5mm; Plug

## 10132797-067100LF
designator J?
BergStak® 0.5mm Mezzanine Connector, Board To Board Connectors, 60 position, 5.3mm height plug connector; Manufacturer: Amphenol; Manufacturer Part Number: 10132797-067100LF
footprint 10132797-067100LF
pins: 1, 2, 3, 4, 5, 6, 7, 8, 9, 10, 11, 12, 13, 14, 15, 16, 17, 18, 19, 20, 21, 22, 23, 24, 25, 26, 27, 28, 29, 30, 31, 32, 33, 34, 35, 36, 37, 38, 39, 40, 41, 42, 43, 44, 45, 46, 47, 48, 49, 50, 51, 52, 53, 54, 55, 56, 57, 58, 59, 60, MP
text: Plug; Amphenol Bergstak 60P 0.5mm

## 10132798-022100LF
designator J?
BergStak® 0.5mm Mezzanine Connector, Board To Board Connectors, 20 position, 2.7mm height receptacle connector; Manufacturer: Amphenol; Manufacturer Part Number: 10132798-022100LF
footprint 10132798-022100LF
pins: 1, 2, 3, 4, 5, 6, 7, 8, 9, 10, 11, 12, 13, 14, 15, 16, 17, 18, 19, 20, MP
text: Amphenol Bergstak 20P 0.5mm; Receptacle

## 10132798-032100LF
designator J?
BergStak® 0.5mm Mezzanine Connector, Board To Board Connectors, 30 position, 2.7mm height receptacle connector; Manufacturer: Amphenol; Manufacturer Part Number: 10132798-032100LF
footprint 10132798-032100LF
pins: 1, 2, 3, 4, 5, 6, 7, 8, 9, 10, 11, 12, 13, 14, 15, 16, 17, 18, 19, 20, 21, 22, 23, 24, 25, 26, 27, 28, 29, 30, MP
text: Receptacle; Amphenol Bergstak 30P 0.5mm

## 10132798-042100LF
designator J?
BergStak® 0.5mm Mezzanine Connector, Board To Board Connectors, 40 position, 2.7mm height receptacle connector; Manufacturer: Amphenol; Manufacturer Part Number: 10132798-042100LF
footprint 10132798-042100LF
pins: 1, 2, 3, 4, 5, 6, 7, 8, 9, 10, 11, 12, 13, 14, 15, 16, 17, 18, 19, 20, 21, 22, 23, 24, 25, 26, 27, 28, 29, 30, 31, 32, 33, 34, 35, 36, 37, 38, 39, 40, MP
text: Receptacle; Amphenol Bergstak 40P 0.5mm

## 10132798-062100LF
designator J?
BergStak® 0.5mm Mezzanine Connector, Board To Board Connectors, 60 position, 2.7mm height receptacle connector; Manufacturer: Amphenol; Manufacturer Part Number: 10132798-062100LF
footprint 10132798-062100LF
pins: 1, 2, 3, 4, 5, 6, 7, 8, 9, 10, 11, 12, 13, 14, 15, 16, 17, 18, 19, 20, 21, 22, 23, 24, 25, 26, 27, 28, 29, 30, 31, 32, 33, 34, 35, 36, 37, 38, 39, 40, 41, 42, 43, 44, 45, 46, 47, 48, 49, 50, 51, 52, 53, 54, 55, 56, 57, 58, 59, 60, MP
text: Receptacle; Amphenol Bergstak 60P 0.5mm

## 10144517-042802LF
designator J?
BergStak Lite 0.80mm Board-to-Board Connector 40 Position Dual Row Vertical Receptacle 7.7mm Stack Height; Manufacturer: Amphenol; Manufacturer Part Number: 10144517-042802LF
footprint 10144517-042802LF
pins: 1, 2, 3, 4, 5, 6, 7, 8, 9, 10, 11, 12, 13, 14, 15, 16, 17, 18, 19, 20, 21, 22, 23, 24, 25, 26, 27, 28, 29, 30, 31, 32, 33, 34, 35, 36, 37, 38, 39, 40

## 10144517-043802LF
designator J?
BergStak Lite 0.80mm Board-to-Board Connector 40 Position Dual Row Vertical Receptacle 11.7mm Stack Height; Manufacturer: Amphenol; Manufacturer Part Number: 10144517-043802LF
footprint 10144517-043802LF
pins: 1, 2, 3, 4, 5, 6, 7, 8, 9, 10, 11, 12, 13, 14, 15, 16, 17, 18, 19, 20, 21, 22, 23, 24, 25, 26, 27, 28, 29, 30, 31, 32, 33, 34, 35, 36, 37, 38, 39, 40

## 10144517-044802LF
designator J?
BergStak Lite 0.80mm Board-to-Board Connector 40 Position Dual Row Vertical Receptacle 15.7mm Stack Height; Manufacturer: Amphenol; Manufacturer Part Number: 10144517-044802LF
footprint 10144517-044802LF
pins: 1, 2, 3, 4, 5, 6, 7, 8, 9, 10, 11, 12, 13, 14, 15, 16, 17, 18, 19, 20, 21, 22, 23, 24, 25, 26, 27, 28, 29, 30, 31, 32, 33, 34, 35, 36, 37, 38, 39, 40

## 10144517-062802LF
designator J?
BergStak Lite 0.80mm, Board-to-Board Connector, 60 Positions, Dual Row, Vertical Receptacle; Manufacturer: Amphenol; Manufacturer Part Number: 10144517-062802LF
footprint 10144517-062802LF
pins: 1, 2, 3, 4, 5, 6, 7, 8, 9, 10, 11, 12, 13, 14, 15, 16, 17, 18, 19, 20, 21, 22, 23, 24, 25, 26, 27, 28, 29, 30, 31, 32, 33, 34, 35, 36, 37, 38, 39, 40, 41, 42, 43, 44, 45, 46, 47, 48, 49, 50, 51, 52, 53, 54, 55, 56, 57, 58, 59, 60

## 10144517-063802LF
designator J?
BergStak Lite 0.80mm, Board-to-Board Connector, 60 Positions, Dual Row, Vertical Receptacle; Manufacturer: Amphenol; Manufacturer Part Number: 10144517-063802LF
footprint 10144517-063802LF
pins: 1, 2, 3, 4, 5, 6, 7, 8, 9, 10, 11, 12, 13, 14, 15, 16, 17, 18, 19, 20, 21, 22, 23, 24, 25, 26, 27, 28, 29, 30, 31, 32, 33, 34, 35, 36, 37, 38, 39, 40, 41, 42, 43, 44, 45, 46, 47, 48, 49, 50, 51, 52, 53, 54, 55, 56, 57, 58, 59, 60

## 10144518-043802LF
designator J?
BergStak Lite 0.80mm Board-to-Board Connector 40 Position Dual Row Vertical Header; Manufacturer: Amphenol; Manufacturer Part Number: 10144518-043802LF
footprint 10144518-043802LF
pins: 1, 2, 3, 4, 5, 6, 7, 8, 9, 10, 11, 12, 13, 14, 15, 16, 17, 18, 19, 20, 21, 22, 23, 24, 25, 26, 27, 28, 29, 30, 31, 32, 33, 34, 35, 36, 37, 38, 39, 40

## 10144518-082802LF
designator J?
BergStak® Lite 0.80mm, Board-to-Board Connector, 80 Positions, Dual Row, Vertical Header; Manufacturer: Amphenol; Manufacturer Part Number: 10144518-082802LF
footprint 10144518-082802LF
pins: 1, 2, 3, 4, 5, 6, 7, 8, 9, 10, 11, 12, 13, 14, 15, 16, 17, 18, 19, 20, 21, 22, 23, 24, 25, 26, 27, 28, 29, 30, 31, 32, 33, 34, 35, 36, 37, 38, 39, 40, 41, 42, 43, 44, 45, 46, 47, 48, 49, 50, 51, 52, 53, 54, 55, 56, 57, 58, 59, 60, 61, 62, 63, 64, 65, 66, 67, 68, 69, 70, 71, 72, 73, 74, 75, 76, 77, 78, 79, 80
text: HEADER; Amphenol Bergstak Lite 0.8mm 80P

## 10156000-051100LF
designator J?
Board-to-Board Connector 0.5mm Pitch 50 Position 2 Row; Manufacturer: Amphenol FCI; Manufacturer Part Number: 10156000-051100LF
footprint 10156000-051100LF
pins: 1, 2, 3, 4, 5, 6, 7, 8, 9, 10, 11, 12, 13, 14, 15, 16, 17, 18, 19, 20, 21, 22, 23, 24, 25, 26, 27, 28, 29, 30, 31, 32, 33, 34, 35, 36, 37, 38, 39, 40, 41, 42, 43, 44, 45, 46, 47, 48, 49, 50
text: Amphenol Board-to-Board (SOCKET)

## 10156001-051100LF
designator J?
Board-to-Board Connector 0.5mm Pitch 50 Position 2 Row; Manufacturer: Amphenol FCI; Manufacturer Part Number: 10156001-051100LF
footprint 10156001-051100LF
pins: 1, 2, 3, 4, 5, 6, 7, 8, 9, 10, 11, 12, 13, 14, 15, 16, 17, 18, 19, 20, 21, 22, 23, 24, 25, 26, 27, 28, 29, 30, 31, 32, 33, 34, 35, 36, 37, 38, 39, 40, 41, 42, 43, 44, 45, 46, 47, 48, 49, 50
text: Amphenol Board-to-Board (TYPE1)

## 430450400
designator J?
Conn Wire to Board HDR 4 POS 3mm Solder RA Side Entry Thru-Hole Micro-Fit 3.0 Tray; MF: Molex; MP: 430450400; SnapEDA_Link: https://www.snapeda.com/parts/430450400/Molex/view-part/?ref=snap; Package: None; Value: *; Check_prices: https://www.snapeda.com/parts/430450400/Molex/view-part/?ref=eda
footprint MOLEX_430450400
pins: 1, 2, 3, 4

## 430450402
designator J?, comment C587568
2x2P Micro-Fit(MX 3.0) 4P Gold 3mm 2 -40℃~+105℃ 8.5A 2 3mm Brass Bend-in Plugin,P=3mm Wire To Board Connector ROHS
footprint Push-Pull,P=3mm 4Pins 2*2P
pins: 1, 2, 3, 4

## 430450802
designator J?, comment C505074
2x4P 8P Micro-Fit(MX 3.0) Gold 3mm 4 -40℃~+105℃ 8.5A 2 3mm Brass Bend-in Push-Pull,P=3mm Wire To Board Connector ROHS
footprint Push-Pull,P=3mm 8Pins 2*4P
pins: 1, 2, 3, 4, 5, 6, 7, 8

## 1723103102
designator J?
Ultra-Fit Right-Angle Header with Solder Nail, 3.50mm Pitch, Single Row,  2 Circuits, Tin (Sn) Plating, Black, Glow-Wire Capable; Manufacturer_Name: Molex Connector Corporation; Copyright: Copyright (C) 2025 Ultra Librarian. All rights reserved.; Manufacturer_Part_Number: 1723103102; RefDes: RefDes; Type: Type
footprint CONN02_1723103102_MOL
pins: 1, 2

## 2045290231
designator J?
MF: Molex; MP: 2045290231; SnapEDA_Link: https://www.snapeda.com/parts/2045290231/Molex/view-part/?ref=snap; Package: None; Value: *; Check_prices: https://www.snapeda.com/parts/2045290231/Molex/view-part/?ref=eda
footprint CONN02_2045290231_MOL
pins: 1, 2, 3, 4

## 2125280400
designator J?
Connector Header Through Hole, Right Angle 4 position 0.118 (3.00mm); MF: Molex; MP: 2125280400; SnapEDA_Link: https://www.snapeda.com/parts/2125280400/Molex/view-part/?ref=snap; Package: None; Value: *; Check_prices: https://www.snapeda.com/parts/2125280400/Molex/view-part/?ref=eda
footprint MOLEX_2125280400
pins: 1, 2, 3, 4

## 2249001002
designator J?
MiniFit MAX SMT SR 2CKT RA HDR TR; MF: Molex; MP: 2249001002; SnapEDA_Link: https://www.snapeda.com/parts/2249001002/Molex/view-part/?ref=snap; Package: None; Value: *; Check_prices: https://www.snapeda.com/parts/2249001002/Molex/view-part/?ref=eda
footprint MOLEX_2249001002
pins: 1, 2, SH1 SHIELD1, SH2 SHIELD2, SH3 SHIELD3, SH4 SHIELD4

## 5025700893
designator J
10 _8 + 2_ Position Card Connector Secure Digital - microSDâ„¢ Surface Mount, Right Angle Gold; MP: 5025700893; MF: Molex; Value: *; SnapEDA_Link: https://www.snapeda.com/parts/5025700893/Molex/view-part/379523/?ref=snap; Package: None; Availability: Unavailable; Price: None
footprint MOLEX_5025700893
pins: 1 DAT2 (io), 2 DAT3/CD (io), 3 CMD (io), 4 VDD (power), 5 CLK (io), 6 VSS (power), 7 DAT0 (io), 8 DAT1 (io), 9 DET_LEVER, 10 DET_SW

## 61300411121
designator J?
Connector Header Through Hole 4 position 0.100 (2.54mm); MF: Wurth Electronics; SnapEDA_Link: https://www.snapeda.com/parts/61300411121/Wurth+Electronics+Inc./view-part/?ref=snap; Package: None; Value: *; MP: 61300411121; Check_prices: https://www.snapeda.com/parts/61300411121/Wurth+Electronics+Inc./view-part/?ref=eda
footprint WURTH_61300411121
pins: 01, 02, 03, 04

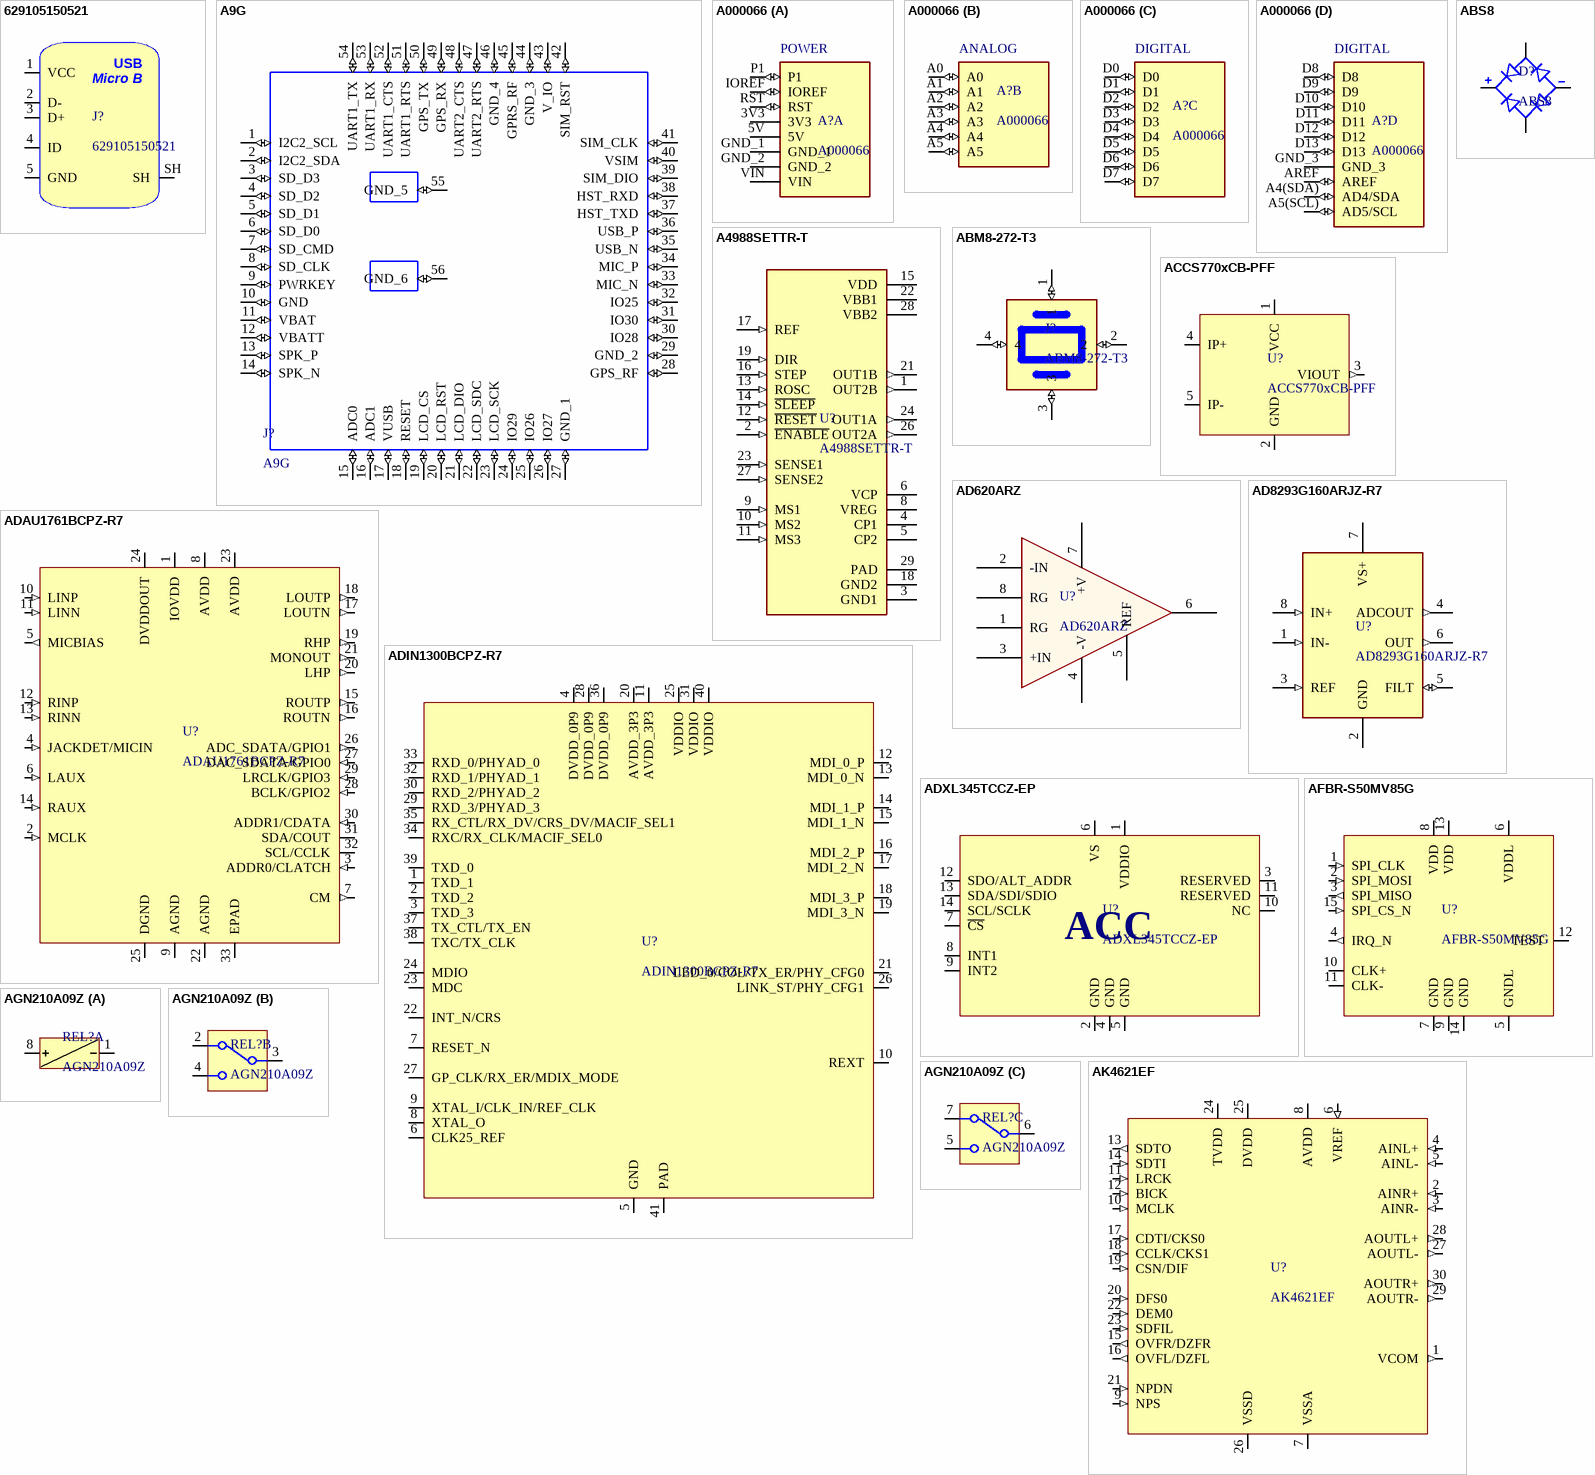
[diagram p4: symbols 629105150521 to AK4621EF]

## 629105150521
designator J?
USB Connector Type Micro B 2.0 SMD; Manufacturer: Wurth; Manufacturer Part Number: 629105150521; Distributor Link: https://www.mouser.de/ProductDetail/Wurth-Elektronik/629105150521?qs=a9WhcLg8qCzXiH7kZP8GRQ%3D%3D
footprint 629105150521
pins: 1 VCC, 2 D-, 3 D+, 4 ID, 5 GND, SH
text: USB; Micro B

## A9G
designator J?
Cellular, Navigation Beidou, GNSS, GPRS, GPS, GSM Transceiver Module 800MHz, 900MHz, 1.8GHz, 1.9GHz Antenna Not Included Surface Mount; MF: Ai-Thinker; Package: None; Price: None; Check_prices: https://www.snapeda.com/parts/A9G/AI-Thinker/view-part/?ref=eda; Value: *; SnapEDA_Link: https://www.snapeda.com/parts/A9G/AI-Thinker/view-part/?ref=snap; MP: A9G; Availability: In Stock; Purchase-URL: https://pricing.snapeda.com/search?q=A9G&ref=eda
footprint A9
pins: 1 I2C2_SCL (io), 2 I2C2_SDA (io), 3 SD_D3 (io), 4 SD_D2 (io), 5 SD_D1 (io), 6 SD_D0 (io), 7 SD_CMD (io), 8 SD_CLK (io), 9 PWRKEY (io), 10 GND (io), 11 VBAT (io), 12 VBATT (io), 13 SPK_P (io), 14 SPK_N (io), 15 ADC0 (io), 16 ADC1 (io), 17 VUSB (io), 18 RESET (io), 19 LCD_CS (io), 20 LCD_RST (io), 21 LCD_DIO (io), 22 LCD_SDC (io), 23 LCD_SCK (io), 24 IO29 (io), 25 IO26 (io), 26 IO27 (io), 27 GND_1 (io), 28 GPS_RF (io), 29 GND_2 (io), 30 IO28 (io), 31 IO30 (io), 32 IO25 (io), 33 MIC_N (io), 34 MIC_P (io), 35 USB_N (io), 36 USB_P (io), 37 HST_TXD (io), 38 HST_RXD (io), 39 SIM_DIO (io), 40 VSIM (io), 41 SIM_CLK (io), 42 SIM_RST (io), 43 V_IO (io), 44 GND_3 (io), 45 GPRS_RF (io), 46 GND_4 (io), 47 UART2_RTS (io), 48 UART2_CTS (io), 49 GPS_RX (io), 50 GPS_TX (io), 51 UART1_RTS (io), 52 UART1_CTS (io), 53 UART1_RX (io), 54 UART1_TX (io), 55 GND_5 (io), 56 GND_6 (io)

## A000066
designator A?
Microcontroller board based on the ATmega328P; MP: ARDUINO UNO REV3 DEVELOPMENT BOARD; MF: Arduino; Price: None; Availability: Not in stock; Package: None; Value: *; SnapEDA_Link: https://www.snapeda.com/parts/ARDUINO%20UNO%20REV3%20DEVELOPMENT%20BOARD/Arduino/view-part/?ref=snap; Check_prices: https://www.snapeda.com/parts/ARDUINO%20UNO%20REV3%20DEVELOPMENT%20BOARD/Arduino/view-part/?ref=eda
footprint ARDUINO_A000066; pin to pad A4(SDA)>A4(SDA
part A pins: 3V3 (power), 5V (power), GND_1 (power), GND_2 (power), IOREF (io), P1 (io), RST (io), VIN (power)
part B pins: A0 (io), A1 (io), A2 (io), A3 (io), A4 (io), A5 (io)
part C pins: D0 (io), D1 (io), D2 (io), D3 (io), D4 (io), D5 (io), D6 (io), D7 (io)
part D pins: A4(SDA) AD4/SDA (io), A5(SCL) AD5/SCL (io), AREF (io), D8 (io), D9 (io), D10 (io), D11 (io), D12 (io), D13 (io), GND_3 (power)
part A text: POWER
part B text: ANALOG
part C text: DIGITAL
part D text: DIGITAL

## A4988SETTR-T
designator U?
Bipolar Motor Driver DMOS Logic 28-QFN (5x5); MF: Allegro; Check_prices: https://www.snapeda.com/parts/A4988SETTR-T/Allegro%20Industries/view-part/46276/?ref=eda; Value: *; Purchase-URL: https://pricing.snapeda.com/search/part/A4988SETTR-T/?ref=eda; Digi-Key_Part_Number: 620-1343-1-ND; SnapEDA_Link: https://www.snapeda.com/parts/A4988SETTR-T/Allegro%20Industries/view-part/46276/?ref=snap; MP: A4988SETTR-T; Package: QFN-28 Allegro MicroSystems LLC
footprint QFN50P500X500X90-29N
pins: 1 OUT2B (out), 2 ~{ENABLE} (in), 3 GND1, 4 CP1, 5 CP2, 6 VCP, 8 VREG, 9 MS1 (in), 10 MS2 (in), 11 MS3 (in), 12 ~{RESET} (in), 13 ROSC (in), 14 ~{SLEEP} (in), 15 VDD (power), 16 STEP (in), 17 REF (in), 18 GND2, 19 DIR (in), 21 OUT1B (out), 22 VBB1 (power), 23 SENSE1 (in), 24 OUT1A (out), 26 OUT2A (out), 27 SENSE2 (in), 28 VBB2 (power), 29 PAD

## ABM8-272-T3
designator J?
12 MHz Â±30ppm Crystal 10pF 50 Ohms 4-SMD, No Lead; MF: ABRACON; SnapEDA_Link: https://www.snapeda.com/parts/ABM8-272-T3/Abracon/view-part/?ref=snap; Package: SMD-4 Abracon; Value: *; MP: ABM8-272-T3; Check_prices: https://www.snapeda.com/parts/ABM8-272-T3/Abracon/view-part/?ref=eda
footprint ABM8-272-T3
pins: 1 (io), 2 (io), 3 (io), 4 (io)

## ABS8
designator D?
1A, 800V, Standard Bridge Rectifier; MF: Taiwan Semiconductor; Value: *; Price: None; Package: ABS Taiwan Semiconductor; Check_prices: https://www.snapeda.com/parts/ABS8/Taiwan+Semiconductor/view-part/?ref=eda; Availability: In Stock; SnapEDA_Link: https://www.snapeda.com/parts/ABS8/Taiwan+Semiconductor/view-part/?ref=snap; Purchase-URL: https://pricing.snapeda.com/search/part/ABS8/?ref=eda; MP: ABS8
footprint DIOB_ABS8
footprint DIOB_ABS8
pins: AC1, AC2, NEG, POS

## ACCS770xCB-PFF
designator U?
Thermally Enhanced, Fully Integrated, Hall-Effect-Based / High-Precision Linear Current Sensor IC with 100 µΩ Current Conductor PFF Leadform; Manufacturer: Allegro MicroSystems; Manufacturer Part Number: ACS770*CB-*-PFF
footprint ACS770-PFF
pins: 1 VCC (power), 2 GND (power), 3 VIOUT (out), 4 IP+ (power), 5 IP- (power)

## AD620ARZ
designator U?
Low Drift, Low Power Instrumentation Amp with Set Gains of 1 to 10000; MF: Analog Devices; MP: AD620ARZ-REEL; SnapEDA_Link: https://www.snapeda.com/parts/AD620ARZ-REEL/Analog+Devices/view-part/?ref=snap; Package: SOIC-8 Analog Devices; Value: *; Check_prices: https://www.snapeda.com/parts/AD620ARZ-REEL/Analog+Devices/view-part/?ref=eda
footprint SOIC127P600X175-8N
pins: 1 RG, 2 -IN, 3 +IN, 4 -V, 5 REF, 6 OUT, 7 +V, 8 RG

## AD8293G160ARJZ-R7
designator U?
Low Cost, Zero-Drift In-Amp with Filter and Fixed Gain = 160; Manufacturer: Analog Devices; LCSC: https://lcsc.com/product-detail/Instrumentation-Amplifiers_Analog-Devices-AD8293G160ARJZ-R7_C141950.html?s_z=n_ad8293g1; Package: SOT-8 Analog Devices; Availability: In Stock; MP: AD8293G160ARJZ-R7; SnapEDA_Link: https://www.snapeda.com/parts/AD8293G160ARJZ-R7/Analog+Devices/view-part/?ref=snap; MF: Analog Devices; Price: None; MPN: AD8293G160ARJZ-R7; LCSC No: C141950
footprint SOT65P280X145-8N
pins: 1 IN- (in), 2 GND (power), 3 REF (in), 4 ADCOUT (out), 5 FILT (io), 6 OUT (out), 7 VS+ (power), 8 IN+ (in)

## ADAU1761BCPZ-R7
designator U?
Manufacturer: Analog Devices; Manufacturer Part Number: ADAU1761BCPZ-R7
footprint LFCSP-VQ
pins: 1 IOVDD (power), 2 MCLK (in), 3 ADDR0/CLATCH (in), 4 JACKDET/MICIN (in), 5 MICBIAS (out), 6 LAUX (in), 7 CM (out), 8 AVDD (power), 9 AGND (power), 10 LINP (in), 11 LINN (in), 12 RINP (in), 13 RINN (in), 14 RAUX (in), 15 ROUTP (out), 16 ROUTN (out), 17 LOUTN (out), 18 LOUTP (out), 19 RHP (out), 20 LHP (out), 21 MONOUT (out), 22 AGND (power), 23 AVDD (power), 24 DVDDOUT (power), 25 DGND (power), 26 ADC_SDATA/GPIO1 (out), 27 DAC_SDATA/GPIO0 (in), 28 BCLK/GPIO2 (in), 29 LRCLK/GPIO3 (in), 30 ADDR1/CDATA (in), 31 SDA/COUT (oc), 32 SCL/CCLK (oc), 33 EPAD (power)

## ADIN1300BCPZ-R7
designator U?
Gigabit Ethernet PHY MII/RGMII/RMII; Manufacturer: Analog Devices; Manufacturer Part Number: ADIN1300BCPZ-R7
footprint LFCSP-CP-40-26 (QFN, 40-Leads, Body 6,00x6,00mm, Pitch 0,50mm, Thermal Pad 2,77x2,77mm, IPC Medium Density)
pins: 1 TXD_1, 2 TXD_2, 3 TXD_3, 4 DVDD_0P9, 5 GND, 6 CLK25_REF, 7 RESET_N, 8 XTAL_O, 9 XTAL_I/CLK_IN/REF_CLK, 10 REXT, 11 AVDD_3P3, 12 MDI_0_P, 13 MDI_0_N, 14 MDI_1_P, 15 MDI_1_N, 16 MDI_2_P, 17 MDI_2_N, 18 MDI_3_P, 19 MDI_3_N, 20 AVDD_3P3, 21 LED_0/COL/TX_ER/PHY_CFG0, 22 INT_N/CRS, 23 MDC, 24 MDIO, 25 VDDIO, 26 LINK_ST/PHY_CFG1, 27 GP_CLK/RX_ER/MDIX_MODE, 28 DVDD_0P9, 29 RXD_3/PHYAD_3, 30 RXD_2/PHYAD_2, 31 VDDIO, 32 RXD_1/PHYAD_1, 33 RXD_0/PHYAD_0, 34 RXC/RX_CLK/MACIF_SEL0, 35 RX_CTL/RX_DV/CRS_DV/MACIF_SEL1, 36 DVDD_0P9, 37 TX_CTL/TX_EN, 38 TXC/TX_CLK, 39 TXD_0, 40 VDDIO, 41 PAD

## ADXL345TCCZ-EP
designator U?
3-Axis, ±2 g/±4 g/±8 g/±16 g Digital Accelerometer Extended Performance SPI/I2C; Manufacturer: Analog Devices; Manufacturer Part Number: ADXL345TCCZ-EP
footprint LGA_CC-14-1_ADI
pins: 1 VDDIO, 2 GND, 3 RESERVED, 4 GND, 5 GND, 6 VS, 7 ~{CS}, 8 INT1, 9 INT2, 10 NC, 11 RESERVED, 12 SDO/ALT_ADDR, 13 SDA/SDI/SDIO, 14 SCL/SCLK
text: ACC

## AFBR-S50MV85G
designator U?
Time-of-Flight Sensor Module for Distance and Motion Measurement; Manufacturer: Broadcom; Manufacturer Part Number: AFBR-S50MV85G; Distributor Link: https://www.mouser.de/ProductDetail/Broadcom-Avago/AFBR-S50MV85G?qs=gZXFycFWdAMjTxpgATYDVg%3D%3D
footprint AFBR-S50MV*
pins: 1 SPI_CLK (in), 2 SPI_MOSI (in), 3 SPI_MISO (out), 4 IRQ_N (out), 5 GNDL (power), 6 VDDL (power), 7 GND (power), 8 VDD (power), 9 GND (power), 10 CLK+ (io), 11 CLK- (io), 12 TEST, 13 VDD (power), 14 GND (power), 15 SPI_CS_N (in)

## AGN210A09Z
designator REL?
Ultra-Miniature Relay DPDT SMT; Manufacturer: Panasonic; Manufacturer Part Number: AGN210A09Z; Distributor Link: https://www.mouser.de/ProductDetail/Panasonic-Industrial-Devices/AGN210A09Z?qs=YINDDaGsG3Hk3qO10oXUPw%3D%3D
footprint AGN2-0A
part A pins: 1 C-, 8 C+
part B pins: 2 NC1, 3 COM1, 4 NO1
part C pins: 5 NO2, 6 COM2, 7 NC2

## AK4621EF
designator U?
115dB 192kHz 24-bit 2 ch ADC & 2 ch DAC with Low Latency Digital Filter; Manufacturer: AKM; Manufacturer Part Number: AK4621EF
footprint VSOP-30
pins: 1 VCOM (out), 2 AINR+ (in), 3 AINR- (in), 4 AINL+ (in), 5 AINL- (in), 6 VREF (in), 7 VSSA (power), 8 AVDD (power), 9 NPS (in), 10 MCLK (in), 11 LRCK (in), 12 BICK (in), 13 SDTO (out), 14 SDTI (in), 15 OVFR/DZFR (out), 16 OVFL/DZFL (out), 17 CDTI/CKS0 (in), 18 CCLK/CKS1 (in), 19 CSN/DIF (in), 20 DFS0 (in), 21 NPDN (in), 22 DEM0 (in), 23 SDFIL (in), 24 TVDD (power), 25 DVDD (power), 26 VSSD (power), 27 AOUTL- (out), 28 AOUTL+ (out), 29 AOUTR- (out), 30 AOUTR+ (out)

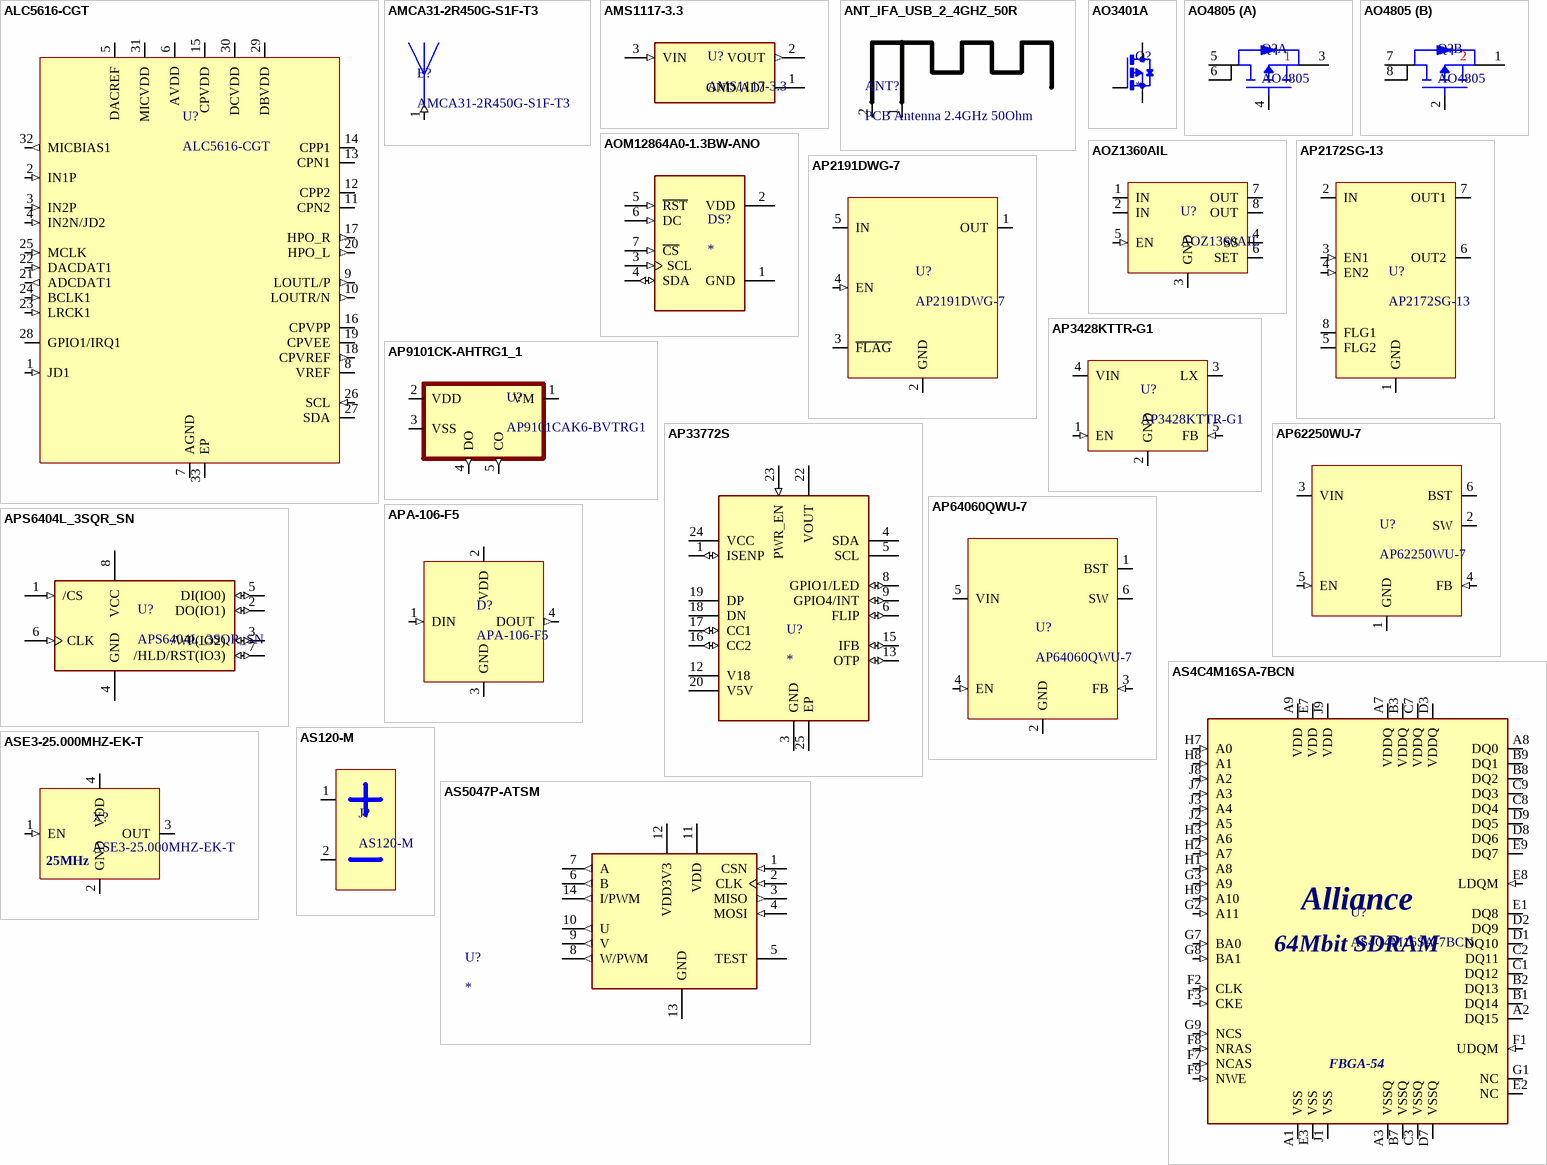
[diagram p5: symbols ALC5616-CGT to ASE3-25.000MHZ-EK-T]